# Altium schematic symbol library dungvh03-CERN_Logic.SchLib: 486 symbols (part 23 of 54)
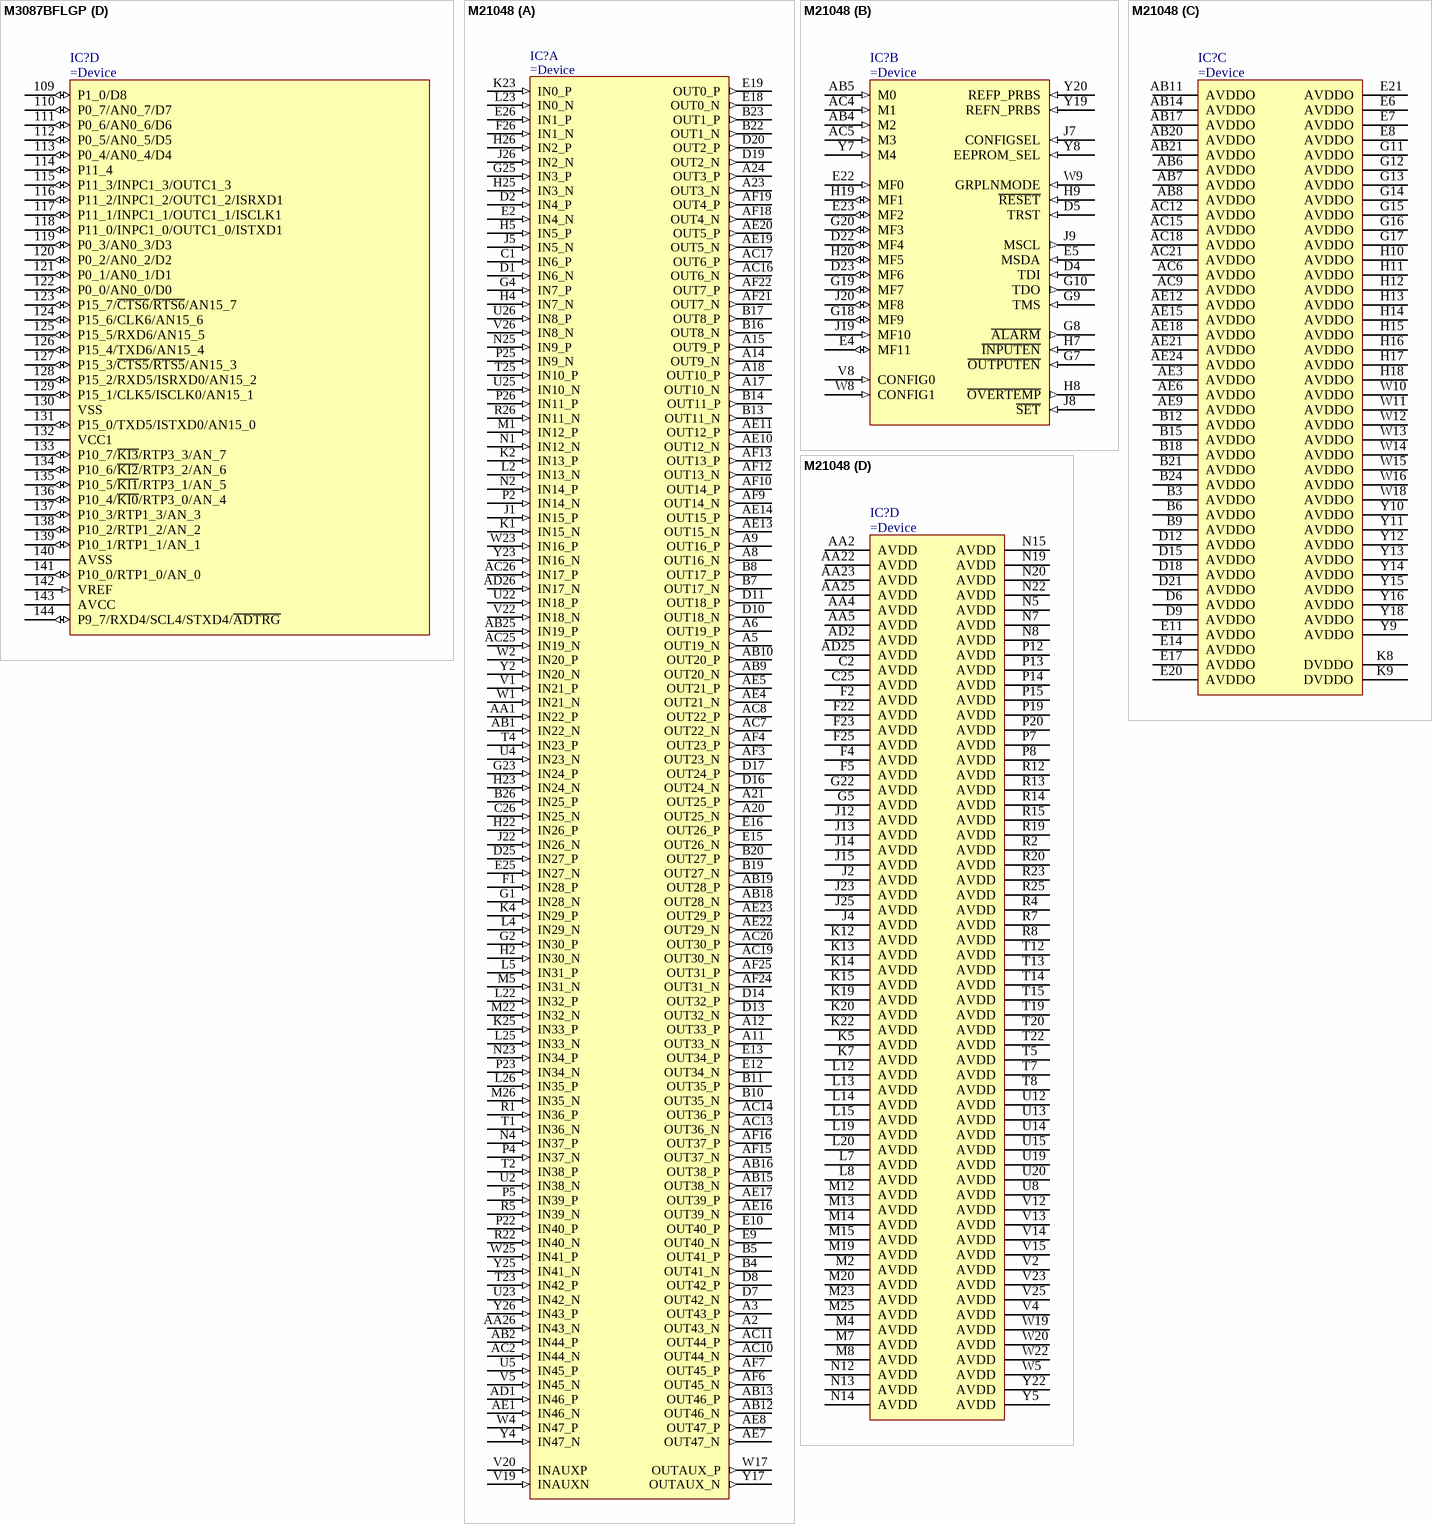
[diagram p283: symbols M3087BFLGP to M21048]

## M3087BFLGP
designator IC?
Micro Controller Unit (MCU)
part A pins: 1 P9_6/CAN1OUT/TXD4/SDA4/SRXD4/ANEX1 (io), 2 P9_5/CLK4/CAN1IN/~{CAN1WU}/ANEX0 (io), 3 P9_4/TB4IN/~{CTS4}/~{RTS4}/~{SS4}/DA1 (io), 4 P9_3/TB3IN/~{CTS3}/~{RTS3}/~{SS3}/DA0 (io), 5 P9_2/TB2IN/TXD3/SDA3/SRXD3/OUTC2_0/IEOUT/ISTXD2 (io), 6 P9_1/TB1IN/RXD3/SCL3/STXD3/IEIN/ISRXD2 (io), 7 P9_0/TB0IN/CLK3 (io), 8 P14_6/~{INT8} (io), 9 P14_5/~{INT7} (io), 10 P14_4/~{INT6} (io), 11 P14_3/INPC1_7/OUTC1_7 (io), 12 P14_2/INPC1_6/OUTC1_6 (io), 13 P14_1/INPC1_5/OUTC1_5 (io), 14 P14_0/INPC1_4/OUTC1_4 (io), 15 BYTE (in), 16 CNVSS (in), 17 P8_7/XCIN (io), 18 P8_6/XCOUT (io), 19 ~{RESET} (in), 20 XOUT (out), 21 VSS (power), 22 XIN (in), 23 VCC1 (power), 24 P8_5/~{NMI} (in), 25 P8_4/~{INT2} (io), 26 P8_3/~{INT1}/CAN0IN/CAN1IN (io), 27 P8_2/~{INT0}/CAN0OUT/CAN1OUT (io), 28 P8_1/TA4IN/U/RTP2_3/~{CTS5}/~{RTS5}/INPC1_5/OUTC1_5 (io), 29 P8_0/TA4OUT/U/RXD5/ISRXD0 (io), 30 P7_7/TA3IN/RTP22/CLK5/CAN0IN/INPC14/OUTC14/ISCLK0 (io), 31 P7_6/TA3OUT/CAN0OUT/TXD5/INPC1_3/OUTC1_3/ISTXD0 (io), 32 P7_5/TA2IN/~{W}/RTP2_1/INPC1_2/OUTC1_2/ISRXD0 (io), 33 P7_4/TA2OUT/W/RTP2_0/INPC1_1/OUTC1_1/ISCLK1 (io), 34 P7_3/TA1IN/~{V}/~{CTS2}/~{RTS2}/~{SS2}/INPC1_0/OUTC1_0/ISTXD1 (io), 35 P7_2/TA1OUT/V/CLK2 (io), 36 P7_1 (io)
part B pins: 37 P7_0 (io), 38 P6_7/TXD1/SDA1/SRXD1 (io), 39 VCC1 (power), 40 P6_6/RXD1/SCL1/STXD1 (io), 41 VSS (power), 42 P6_5/CLK1 (io), 43 P6_4 (io), 44 P6_3/TXD0/SDA0/SRXD0/IrDAOUT (io), 45 P6_2/RXD0/SCL0/STXD0/IrDAIN (io), 46 P6_1/RTP0_1/CLK0 (io), 47 P6_0/RTP0_0/~{CTS0}/~{RTS0}/~{SS0} (io), 48 P13_7/OUTC2_7 (io), 49 P13_6/OUTC2_1/ISCLK2 (io), 50 P13_5/OUTC2_2/ISRXD2/IEIN (io), 51 P13_4/OUTC2_0/ISTXD2/IEOUT (io), 52 P5_7/~{RDY} (io), 53 P5_6/ALE (io), 54 P5_5/~{HOLD} (io), 55 P5_4/~{HLDA}/ALE (io), 56 P13_3/OUTC2_3 (io), 57 VSS (power), 58 P13_2/OUTC2_6 (io), 59 VCC2 (power), 60 P13_1/OUTC2_5 (io), 61 P13_0/OUTC2_4 (io), 62 P5_3/CLKOUT/BCLK/ALE (io), 63 P5_2/~{RD} (io), 64 P5_1/~{WRH}/~{BHE} (io), 65 P5_0/~{WRL}/~{WR} (io), 66 P12_7 (io), 67 P12_6 (io), 68 P12_5 (io), 69 P4_7/~{CS0}/~{A23} (io), 70 P4_6/~{CS1}/A22 (io), 71 P4_5/~{CS2}/A21 (io), 72 P4_4/~{CS3}/A20 (io)
part C pins: 73 P4_3/A19 (io), 74 VCC2 (power), 75 P4_2/A18 (io), 76 VSS (power), 77 P4_1/A17 (io), 78 P4_0/A16 (io), 79 P3_7/A15,[A15/D15] (io), 80 P3_6/A14,[A14/D14] (io), 81 P3_5/A13,[A13/D13] (io), 82 P3_4/A12,[A12/D12] (io), 83 P3_3/A11,[A11/D11] (io), 84 P3_2/A10,[A10/D10] (io), 85 P3_1/A9,[A9/D9] (io), 86 P12_4 (io), 87 P12_/~{CTS6}/~{RTS6} (io), 88 P12_2/RXD6 (io), 89 P12_1/CLK6 (io), 90 P12_0/TXD6 (io), 91 VCC2 (power), 92 P3_0/A8,[A8/D8] (io), 93 VSS (power), 94 P2_7/AN2_7/A7,[A7/D7] (io), 95 P2_6/AN2_6/A6,[A6/D6] (io), 96 P2_5/AN2_5/A5,[A5/D5] (io), 97 P2_4/AN2_4/A4,[A4/D4] (io), 98 P2_3/AN2_3/A3,[A3/D3] (io), 99 P2_2/AN2_2/A2,[A2/D2] (io), 100 P2_1/AN2_1/A1,[A1/D1] (io), 101 P2_0/AN2_0/A0,[A0/D0] (io), 102 P1_7/~{INT5}/D15 (io), 103 P1_6/~{INT4}/D14 (io), 104 P1_5/~{INT3}/D13 (io), 105 P1_4/D12 (io), 106 P1_3/D11 (io), 107 P1_2/D10 (io), 108 P1_1/D9 (io)
part D pins: 109 P1_0/D8 (io), 110 P0_7/AN0_7/D7 (io), 111 P0_6/AN0_6/D6 (io), 112 P0_5/AN0_5/D5 (io), 113 P0_4/AN0_4/D4 (io), 114 P11_4 (io), 115 P11_3/INPC1_3/OUTC1_3 (io), 116 P11_2/INPC1_2/OUTC1_2/ISRXD1 (io), 117 P11_1/INPC1_1/OUTC1_1/ISCLK1 (io), 118 P11_0/INPC1_0/OUTC1_0/ISTXD1 (io), 119 P0_3/AN0_3/D3 (io), 120 P0_2/AN0_2/D2 (io), 121 P0_1/AN0_1/D1 (io), 122 P0_0/AN0_0/D0 (io), 123 P15_7/~{CTS6}/~{RTS6}/AN15_7 (io), 124 P15_6/CLK6/AN15_6 (io), 125 P15_5/RXD6/AN15_5 (io), 126 P15_4/TXD6/AN15_4 (io), 127 P15_3/~{CTS5}/~{RTS5}/AN15_3 (io), 128 P15_2/RXD5/ISRXD0/AN15_2 (io), 129 P15_1/CLK5/ISCLK0/AN15_1 (io), 130 VSS (power), 131 P15_0/TXD5/ISTXD0/AN15_0 (io), 132 VCC1 (power), 133 P10_7/~{KI3}/RTP3_3/AN_7 (io), 134 P10_6/~{KI2}/RTP3_2/AN_6 (io), 135 P10_5/~{KI1}/RTP3_1/AN_5 (io), 136 P10_4/~{KI0}/RTP3_0/AN_4 (io), 137 P10_3/RTP1_3/AN_3 (io), 138 P10_2/RTP1_2/AN_2 (io), 139 P10_1/RTP1_1/AN_1 (io), 140 AVSS (power), 141 P10_0/RTP1_0/AN_0 (io), 142 VREF (in), 143 AVCC (power), 144 P9_7/RXD4/SCL4/STXD4/~{ADTRG} (io)

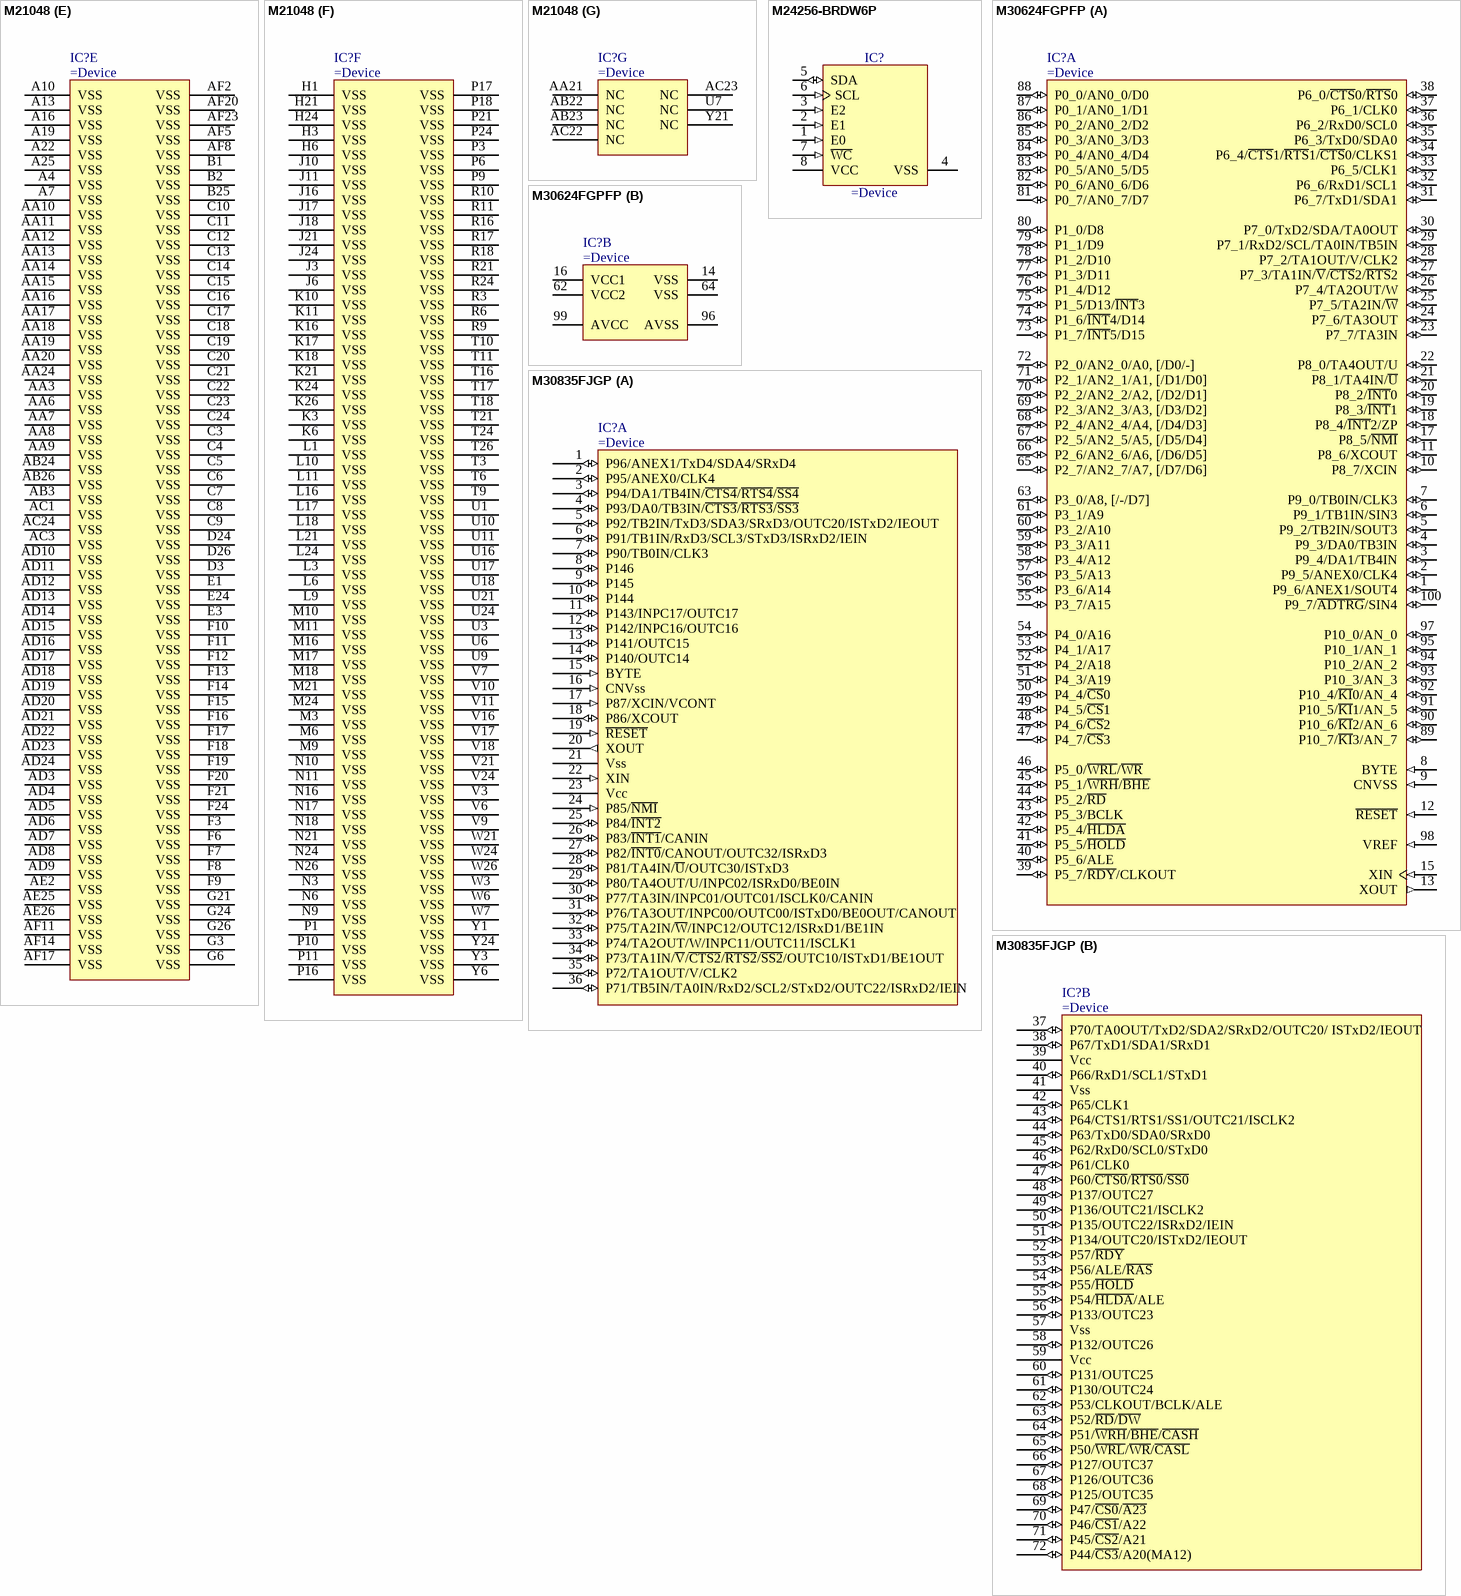
[diagram p98: symbols M21048 to M30835FJGP]

## M21048
designator IC?
12.5 Gbps Crosspoint Switch Family
part A pins: A2 OUT43_N (out), A3 OUT43_P (out), A5 OUT19_N (out), A6 OUT19_P (out), A8 OUT16_N (out), A9 OUT16_P (out), A11 OUT33_N (out), A12 OUT33_P (out), A14 OUT9_N (out), A15 OUT9_P (out), A17 OUT10_N (out), A18 OUT10_P (out), A20 OUT25_N (out), A21 OUT25_P (out), A23 OUT3_N (out), A24 OUT3_P (out), AA1 IN22_P (in), AA26 IN43_N (in), AB1 IN22_N (in), AB2 IN44_P (in), AB9 OUT20_N (out), AB10 OUT20_P (out), AB12 OUT46_N (out), AB13 OUT46_P (out), AB15 OUT38_N (out), AB16 OUT38_P (out), AB18 OUT28_N (out), AB19 OUT28_P (out), AB25 IN19_P (in), AC2 IN44_N (in), AC7 OUT22_N (out), AC8 OUT22_P (out), AC10 OUT44_N (out), AC11 OUT44_P (out), AC13 OUT36_N (out), AC14 OUT36_P (out), AC16 OUT6_N (out), AC17 OUT6_P (out), AC19 OUT30_N (out), AC20 OUT30_P (out), AC25 IN19_N (in), AC26 IN17_P (in), AD1 IN46_P (in), AD26 IN17_N (in), AE1 IN46_N (in), AE4 OUT21_N (out), AE5 OUT21_P (out), AE7 OUT47_N (out), AE8 OUT47_P (out), AE10 OUT12_N (out), AE11 OUT12_P (out), AE13 OUT15_N (out), AE14 OUT15_P (out), AE16 OUT39_N (out), AE17 OUT39_P (out), AE19 OUT5_N (out), AE20 OUT5_P (out), AE22 OUT29_N (out), AE23 OUT29_P (out), AF3 OUT23_N (out), AF4 OUT23_P (out), AF6 OUT45_N (out), AF7 OUT45_P (out), AF9 OUT14_N (out), AF10 OUT14_P (out), AF12 OUT13_N (out), AF13 OUT13_P (out), AF15 OUT37_N (out), AF16 OUT37_P (out), AF18 OUT4_N (out), AF19 OUT4_P (out), AF21 OUT7_N (out), AF22 OUT7_P (out), AF24 OUT31_N (out), AF25 OUT31_P (out), B4 OUT41_N (out), B5 OUT41_P (out), B7 OUT17_N (out), B8 OUT17_P (out), B10 OUT35_N (out), B11 OUT35_P (out), B13 OUT11_N (out), B14 OUT11_P (out), B16 OUT8_N (out), B17 OUT8_P (out), B19 OUT27_N (out), B20 OUT27_P (out), B22 OUT1_N (out), B23 OUT1_P (out), B26 IN25_P (in), C1 IN6_P (in), C26 IN25_N (in), D1 IN6_N (in), D2 IN4_P (in), D7 OUT42_N (out), D8 OUT42_P (out), D10 OUT18_N (out), D11 OUT18_P (out), D13 OUT32_N (out), D14 OUT32_P (out), D16 OUT24_N (out), D17 OUT24_P (out), D19 OUT2_N (out), D20 OUT2_P (out), D25 IN27_P (in), E2 IN4_N (in), E9 OUT40_N (out), E10 OUT40_P (out), E12 OUT34_N (out), E13 OUT34_P (out), E15 OUT26_N (out), E16 OUT26_P (out), E18 OUT0_N (out), E19 OUT0_P (out), E25 IN27_N (in), E26 IN1_P (in), F1 IN28_P (in), F26 IN1_N (in), G1 IN28_N (in), G2 IN30_P (in), G4 IN7_P (in), G23 IN24_P (in), G25 IN3_P (in), H2 IN30_N (in), H4 IN7_N (in), H5 IN5_P (in), H22 IN26_P (in), H23 IN24_N (in), H25 IN3_N (in), H26 IN2_P (in), J1 IN15_P (in), J5 IN5_N (in), J22 IN26_N (in), J26 IN2_N (in), K1 IN15_N (in), K2 IN13_P (in), K4 IN29_P (in), K23 IN0_P (in), K25 IN33_P (in), L2 IN13_N (in), L4 IN29_N (in), L5 IN31_P (in), L22 IN32_P (in), L23 IN0_N (in), L25 IN33_N (in), L26 IN35_P (in), M1 IN12_P (in), M5 IN31_N (in), M22 IN32_N (in), M26 IN35_N (in), N1 IN12_N (in), N2 IN14_P (in), N4 IN37_P (in), N23 IN34_P (in), N25 IN9_P (in), P2 IN14_N (in), P4 IN37_N (in), P5 IN39_P (in), P22 IN40_P (in), P23 IN34_N (in), P25 IN9_N (in), P26 IN11_P (in), R1 IN36_P (in), R5 IN39_N (in), R22 IN40_N (in), R26 IN11_N (in), T1 IN36_N (in), T2 IN38_P (in), T4 IN23_P (in), T23 IN42_P (in), T25 IN10_P (in), U2 IN38_N (in), U4 IN23_N (in), U5 IN45_P (in), U22 IN18_P (in), U23 IN42_N (in), U25 IN10_N (in), U26 IN8_P (in), V1 IN21_P (in), V5 IN45_N (in), V19 INAUXN (in), V20 INAUXP (in), V22 IN18_N (in), V26 IN8_N (in), W1 IN21_N (in), W2 IN20_P (in), W4 IN47_P (in), W17 OUTAUX_P (out), W23 IN16_P (in), W25 IN41_P (in), Y2 IN20_N (in), Y4 IN47_N (in), Y17 OUTAUX_N (out), Y23 IN16_N (in), Y25 IN41_N (in), Y26 IN43_P (in)
part B pins: AB4 M2 (in), AB5 M0 (in), AC4 M1 (in), AC5 M3 (in), D4 TDI (in), D5 TRST (in), D22 MF4 (io), D23 MF6 (io), E4 MF11 (io), E5 MSDA (in), E22 MF0 (in), E23 MF2 (io), G7 ~{OUTPUTEN} (in), G8 ~{ALARM} (out), G9 TMS (in), G10 TDO (out), G18 MF9 (io), G19 MF7 (io), G20 MF3 (io), H7 ~{INPUTEN} (in), H8 ~{OVERTEMP} (out), H9 ~{RESET} (in), H19 MF1 (io), H20 MF5 (io), J7 CONFIGSEL (in), J8 ~{SET} (in), J9 MSCL (out), J19 MF10 (in), J20 MF8 (io), V8 CONFIG0 (in), W8 CONFIG1 (in), W9 GRPLNMODE (in), Y7 M4 (in), Y8 EEPROM_SEL (in), Y19 REFN_PRBS (in), Y20 REFP_PRBS (in)
part C pins:  AB6 AVDDO (power),  AB7 AVDDO (power),  AB8 AVDDO (power),  AB11 AVDDO (power),  AB14 AVDDO (power),  AB17 AVDDO (power),  AB20 AVDDO (power),  AB21 AVDDO (power),  AC6 AVDDO (power),  AC9 AVDDO (power),  AC12 AVDDO (power),  AC15 AVDDO (power),  AC18 AVDDO (power),  AC21 AVDDO (power),  AE3 AVDDO (power),  AE6 AVDDO (power),  AE9 AVDDO (power),  AE12 AVDDO (power),  AE15 AVDDO (power),  AE18 AVDDO (power),  AE21 AVDDO (power),  AE24 AVDDO (power),  B3 AVDDO (power),  B6 AVDDO (power),  B9 AVDDO (power),  B12 AVDDO (power),  B15 AVDDO (power),  B18 AVDDO (power),  B21 AVDDO (power),  B24 AVDDO (power),  D6 AVDDO (power),  D9 AVDDO (power),  D12 AVDDO (power),  D15 AVDDO (power),  D18 AVDDO (power),  D21 AVDDO (power),  E6 AVDDO (power),  E7 AVDDO (power),  E8 AVDDO (power),  E11 AVDDO (power),  E14 AVDDO (power),  E17 AVDDO (power),  E20 AVDDO (power),  E21 AVDDO (power),  G11 AVDDO (power),  G12 AVDDO (power),  G13 AVDDO (power),  G14 AVDDO (power),  G15 AVDDO (power),  G16 AVDDO (power),  G17 AVDDO (power),  H10 AVDDO (power),  H11 AVDDO (power),  H12 AVDDO (power),  H13 AVDDO (power),  H14 AVDDO (power),  H15 AVDDO (power),  H16 AVDDO (power),  H17 AVDDO (power),  H18 AVDDO (power),  W10 AVDDO (power),  W11 AVDDO (power),  W12 AVDDO (power),  W13 AVDDO (power),  W14 AVDDO (power),  W15 AVDDO (power),  W16 AVDDO (power),  W18 AVDDO (power),  Y9 AVDDO (power),  Y10 AVDDO (power),  Y11 AVDDO (power),  Y12 AVDDO (power),  Y13 AVDDO (power),  Y14 AVDDO (power),  Y15 AVDDO (power),  Y16 AVDDO (power),  Y18 AVDDO (power), K8 DVDDO (power), K9 DVDDO (power)
part D pins:  AA2 AVDD (power),  AA4 AVDD (power),  AA5 AVDD (power),  AA22 AVDD (power),  AA23 AVDD (power),  AA25 AVDD (power),  AD2 AVDD (power),  AD25 AVDD (power),  C2 AVDD (power),  C25 AVDD (power),  F2 AVDD (power),  F4 AVDD (power),  F5 AVDD (power),  F22 AVDD (power),  F23 AVDD (power),  F25 AVDD (power),  G5 AVDD (power),  G22 AVDD (power),  J2 AVDD (power),  J4 AVDD (power),  J12 AVDD (power),  J13 AVDD (power),  J14 AVDD (power),  J15 AVDD (power),  J23 AVDD (power),  J25 AVDD (power),  K5 AVDD (power),  K7 AVDD (power),  K12 AVDD (power),  K13 AVDD (power),  K14 AVDD (power),  K15 AVDD (power),  K19 AVDD (power),  K20 AVDD (power),  K22 AVDD (power),  L7 AVDD (power),  L8 AVDD (power),  L12 AVDD (power),  L13 AVDD (power),  L14 AVDD (power),  L15 AVDD (power),  L19 AVDD (power),  L20 AVDD (power),  M2 AVDD (power),  M4 AVDD (power),  M7 AVDD (power),  M8 AVDD (power),  M12 AVDD (power),  M13 AVDD (power),  M14 AVDD (power),  M15 AVDD (power),  M19 AVDD (power),  M20 AVDD (power),  M23 AVDD (power),  M25 AVDD (power),  N5 AVDD (power),  N7 AVDD (power),  N8 AVDD (power),  N12 AVDD (power),  N13 AVDD (power),  N14 AVDD (power),  N15 AVDD (power),  N19 AVDD (power),  N20 AVDD (power),  N22 AVDD (power),  P7 AVDD (power),  P8 AVDD (power),  P12 AVDD (power),  P13 AVDD (power),  P14 AVDD (power),  P15 AVDD (power),  P19 AVDD (power),  P20 AVDD (power),  R2 AVDD (power),  R4 AVDD (power),  R7 AVDD (power),  R8 AVDD (power),  R12 AVDD (power),  R13 AVDD (power),  R14 AVDD (power),  R15 AVDD (power),  R19 AVDD (power),  R20 AVDD (power),  R23 AVDD (power),  R25 AVDD (power),  T5 AVDD (power),  T7 AVDD (power),  T8 AVDD (power),  T12 AVDD (power),  T13 AVDD (power),  T14 AVDD (power),  T15 AVDD (power),  T19 AVDD (power),  T20 AVDD (power),  T22 AVDD (power),  U8 AVDD (power),  U12 AVDD (power),  U13 AVDD (power),  U14 AVDD (power),  U15 AVDD (power),  U19 AVDD (power),  U20 AVDD (power),  V2 AVDD (power),  V4 AVDD (power),  V12 AVDD (power),  V13 AVDD (power),  V14 AVDD (power),  V15 AVDD (power),  V23 AVDD (power),  V25 AVDD (power),  W5 AVDD (power),  W19 AVDD (power),  W20 AVDD (power),  W22 AVDD (power),  Y5 AVDD (power),  Y22 AVDD (power)
part E pins:  A4 VSS (power),  A7 VSS (power),  A10 VSS (power),  A13 VSS (power),  A16 VSS (power),  A19 VSS (power),  A22 VSS (power),  A25 VSS (power),  AA3 VSS (power),  AA6 VSS (power),  AA7 VSS (power),  AA8 VSS (power),  AA9 VSS (power),  AA10 VSS (power),  AA11 VSS (power),  AA12 VSS (power),  AA13 VSS (power),  AA14 VSS (power),  AA15 VSS (power),  AA16 VSS (power),  AA17 VSS (power),  AA18 VSS (power),  AA19 VSS (power),  AA20 VSS (power),  AA24 VSS (power),  AB3 VSS (power),  AB24 VSS (power),  AB26 VSS (power),  AC1 VSS (power),  AC3 VSS (power),  AC24 VSS (power),  AD3 VSS (power),  AD4 VSS (power),  AD5 VSS (power),  AD6 VSS (power),  AD7 VSS (power),  AD8 VSS (power),  AD9 VSS (power),  AD10 VSS (power),  AD11 VSS (power),  AD12 VSS (power),  AD13 VSS (power),  AD14 VSS (power),  AD15 VSS (power),  AD16 VSS (power),  AD17 VSS (power),  AD18 VSS (power),  AD19 VSS (power),  AD20 VSS (power),  AD21 VSS (power),  AD22 VSS (power),  AD23 VSS (power),  AD24 VSS (power),  AE2 VSS (power),  AE25 VSS (power),  AE26 VSS (power),  AF2 VSS (power),  AF5 VSS (power),  AF8 VSS (power),  AF11 VSS (power),  AF14 VSS (power),  AF17 VSS (power),  AF20 VSS (power),  AF23 VSS (power),  B1 VSS (power),  B2 VSS (power),  B25 VSS (power),  C3 VSS (power),  C4 VSS (power),  C5 VSS (power),  C6 VSS (power),  C7 VSS (power),  C8 VSS (power),  C9 VSS (power),  C10 VSS (power),  C11 VSS (power),  C12 VSS (power),  C13 VSS (power),  C14 VSS (power),  C15 VSS (power),  C16 VSS (power),  C17 VSS (power),  C18 VSS (power),  C19 VSS (power),  C20 VSS (power),  C21 VSS (power),  C22 VSS (power),  C23 VSS (power),  C24 VSS (power),  D3 VSS (power),  D24 VSS (power),  D26 VSS (power),  E1 VSS (power),  E3 VSS (power),  E24 VSS (power),  F3 VSS (power),  F6 VSS (power),  F7 VSS (power),  F8 VSS (power),  F9 VSS (power),  F10 VSS (power),  F11 VSS (power),  F12 VSS (power),  F13 VSS (power),  F14 VSS (power),  F15 VSS (power),  F16 VSS (power),  F17 VSS (power),  F18 VSS (power),  F19 VSS (power),  F20 VSS (power),  F21 VSS (power),  F24 VSS (power),  G3 VSS (power),  G6 VSS (power),  G21 VSS (power),  G24 VSS (power),  G26 VSS (power)
part F pins:  H1 VSS (power),  H3 VSS (power),  H6 VSS (power),  H21 VSS (power),  H24 VSS (power),  J3 VSS (power),  J6 VSS (power),  J10 VSS (power),  J11 VSS (power),  J16 VSS (power),  J17 VSS (power),  J18 VSS (power),  J21 VSS (power),  J24 VSS (power),  K3 VSS (power),  K6 VSS (power),  K10 VSS (power),  K11 VSS (power),  K16 VSS (power),  K17 VSS (power),  K18 VSS (power),  K21 VSS (power),  K24 VSS (power),  K26 VSS (power),  L1 VSS (power),  L3 VSS (power),  L6 VSS (power),  L9 VSS (power),  L10 VSS (power),  L11 VSS (power),  L16 VSS (power),  L17 VSS (power),  L18 VSS (power),  L21 VSS (power),  L24 VSS (power),  M3 VSS (power),  M6 VSS (power),  M9 VSS (power),  M10 VSS (power),  M11 VSS (power),  M16 VSS (power),  M17 VSS (power),  M18 VSS (power),  M21 VSS (power),  M24 VSS (power),  N3 VSS (power),  N6 VSS (power),  N9 VSS (power),  N10 VSS (power),  N11 VSS (power),  N16 VSS (power),  N17 VSS (power),  N18 VSS (power),  N21 VSS (power),  N24 VSS (power),  N26 VSS (power),  P1 VSS (power),  P3 VSS (power),  P6 VSS (power),  P9 VSS (power),  P10 VSS (power),  P11 VSS (power),  P16 VSS (power),  P17 VSS (power),  P18 VSS (power),  P21 VSS (power),  P24 VSS (power),  R3 VSS (power),  R6 VSS (power),  R9 VSS (power),  R10 VSS (power),  R11 VSS (power),  R16 VSS (power),  R17 VSS (power),  R18 VSS (power),  R21 VSS (power),  R24 VSS (power),  T3 VSS (power),  T6 VSS (power),  T9 VSS (power),  T10 VSS (power),  T11 VSS (power),  T16 VSS (power),  T17 VSS (power),  T18 VSS (power),  T21 VSS (power),  T24 VSS (power),  T26 VSS (power),  U1 VSS (power),  U3 VSS (power),  U6 VSS (power),  U9 VSS (power),  U10 VSS (power),  U11 VSS (power),  U16 VSS (power),  U17 VSS (power),  U18 VSS (power),  U21 VSS (power),  U24 VSS (power),  V3 VSS (power),  V6 VSS (power),  V7 VSS (power),  V9 VSS (power),  V10 VSS (power),  V11 VSS (power),  V16 VSS (power),  V17 VSS (power),  V18 VSS (power),  V21 VSS (power),  V24 VSS (power),  W3 VSS (power),  W6 VSS (power),  W7 VSS (power),  W21 VSS (power),  W24 VSS (power),  W26 VSS (power),  Y1 VSS (power),  Y3 VSS (power),  Y6 VSS (power),  Y24 VSS (power)
part G pins:  AA21 NC,  AB22 NC,  AB23 NC,  AC22 NC,  AC23 NC,  U7 NC,  Y21 NC

## M24256-BRDW6P
designator IC?
256-Kbit Serial I²C Bus EEPROM
pins: 1 E0 (in), 2 E1 (in), 3 E2 (in), 4 VSS (power), 5 SDA (io), 6 SCL (in), 7 ~{WC} (in), 8 VCC (power)

## M30624FGPFP
designator IC?
Flash Memory M16C/60 Series, 62P Group MCU, 256K + 4K ROM, 20K RAM, 100-pin RQFP
part A pins: 1 P9_6/ANEX1/SOUT4 (io), 2 P9_5/ANEX0/CLK4 (io), 3 P9_4/DA1/TB4IN (io), 4 P9_3/DA0/TB3IN (io), 5 P9_2/TB2IN/SOUT3 (io), 6 P9_1/TB1IN/SIN3 (io), 7 P9_0/TB0IN/CLK3 (io), 8 BYTE (in), 9 CNVSS (in), 10 P8_7/XCIN (io), 11 P8_6/XCOUT (io), 12 ~{RESET} (in), 13 XOUT (out), 15 XIN (in), 17 P8_5/~{NMI} (io), 18 P8_4/~{INT}2/ZP (io), 19 P8_3/~{INT}1 (io), 20 P8_2/~{INT}0 (io), 21 P8_1/TA4IN/~{U} (io), 22 P8_0/TA4OUT/U (io), 23 P7_7/TA3IN (io), 24 P7_6/TA3OUT (io), 25 P7_5/TA2IN/~{W} (io), 26 P7_4/TA2OUT/W (io), 27 P7_3/TA1IN/~{V}/~{CTS}2/~{RTS}2 (io), 28 P7_2/TA1OUT/V/CLK2 (io), 29 P7_1/RxD2/SCL/TA0IN/TB5IN (io), 30 P7_0/TxD2/SDA/TA0OUT (io), 31 P6_7/TxD1/SDA1 (io), 32 P6_6/RxD1/SCL1 (io), 33 P6_5/CLK1 (io), 34 P6_4/~{CTS}1/~{RTS}1/~{CTS}0/CLKS1 (io), 35 P6_3/TxD0/SDA0 (io), 36 P6_2/RxD0/SCL0 (io), 37 P6_1/CLK0 (io), 38 P6_0/~{CTS}0/~{RTS}0 (io), 39 P5_7/~{RDY}/CLKOUT (io), 40 P5_6/ALE (io), 41 P5_5/~{HOLD} (io), 42 P5_4/~{HLDA} (io), 43 P5_3/BCLK (io), 44 P5_2/~{RD} (io), 45 P5_1/~{WRH}/~{BHE} (io), 46 P5_0/~{WRL}/~{WR} (io), 47 P4_7/~{CS}3 (io), 48 P4_6/~{CS}2 (io), 49 P4_5/~{CS}1 (io), 50 P4_4/~{CS}0 (io), 51 P4_3/A19 (io), 52 P4_2/A18 (io), 53 P4_1/A17 (io), 54 P4_0/A16 (io), 55 P3_7/A15 (io), 56 P3_6/A14 (io), 57 P3_5/A13 (io), 58 P3_4/A12 (io), 59 P3_3/A11 (io), 60 P3_2/A10 (io), 61 P3_1/A9 (io), 63 P3_0/A8, [/-/D7] (io), 65 P2_7/AN2_7/A7, [/D7/D6] (io), 66 P2_6/AN2_6/A6, [/D6/D5] (io), 67 P2_5/AN2_5/A5, [/D5/D4] (io), 68 P2_4/AN2_4/A4, [/D4/D3] (io), 69 P2_3/AN2_3/A3, [/D3/D2] (io), 70 P2_2/AN2_2/A2, [/D2/D1] (io), 71 P2_1/AN2_1/A1, [/D1/D0] (io), 72 P2_0/AN2_0/A0, [/D0/-] (io), 73 P1_7/~{INT}5/D15 (io), 74 P1_6/~{INT}4/D14 (io), 75 P1_5/D13/~{INT}3 (io), 76 P1_4/D12 (io), 77 P1_3/D11 (io), 78 P1_2/D10 (io), 79 P1_1/D9 (io), 80 P1_0/D8 (io), 81 P0_7/AN0_7/D7 (io), 82 P0_6/AN0_6/D6 (io), 83 P0_5/AN0_5/D5 (io), 84 P0_4/AN0_4/D4 (io), 85 P0_3/AN0_3/D3 (io), 86 P0_2/AN0_2/D2 (io), 87 P0_1/AN0_1/D1 (io), 88 P0_0/AN0_0/D0 (io), 89 P10_7/~{KI}3/AN_7 (io), 90 P10_6/~{KI}2/AN_6 (io), 91 P10_5/~{KI}1/AN_5 (io), 92 P10_4/~{KI}0/AN_4 (io), 93 P10_3/AN_3 (io), 94 P10_2/AN_2 (io), 95 P10_1/AN_1 (io), 97 P10_0/AN_0 (io), 98 VREF (in), 100 P9_7/~{ADTRG}/SIN4 (io)
part B pins: 14 VSS (power), 16 VCC1 (power), 62 VCC2 (power), 64 VSS (power), 96 AVSS (power), 99 AVCC (power)

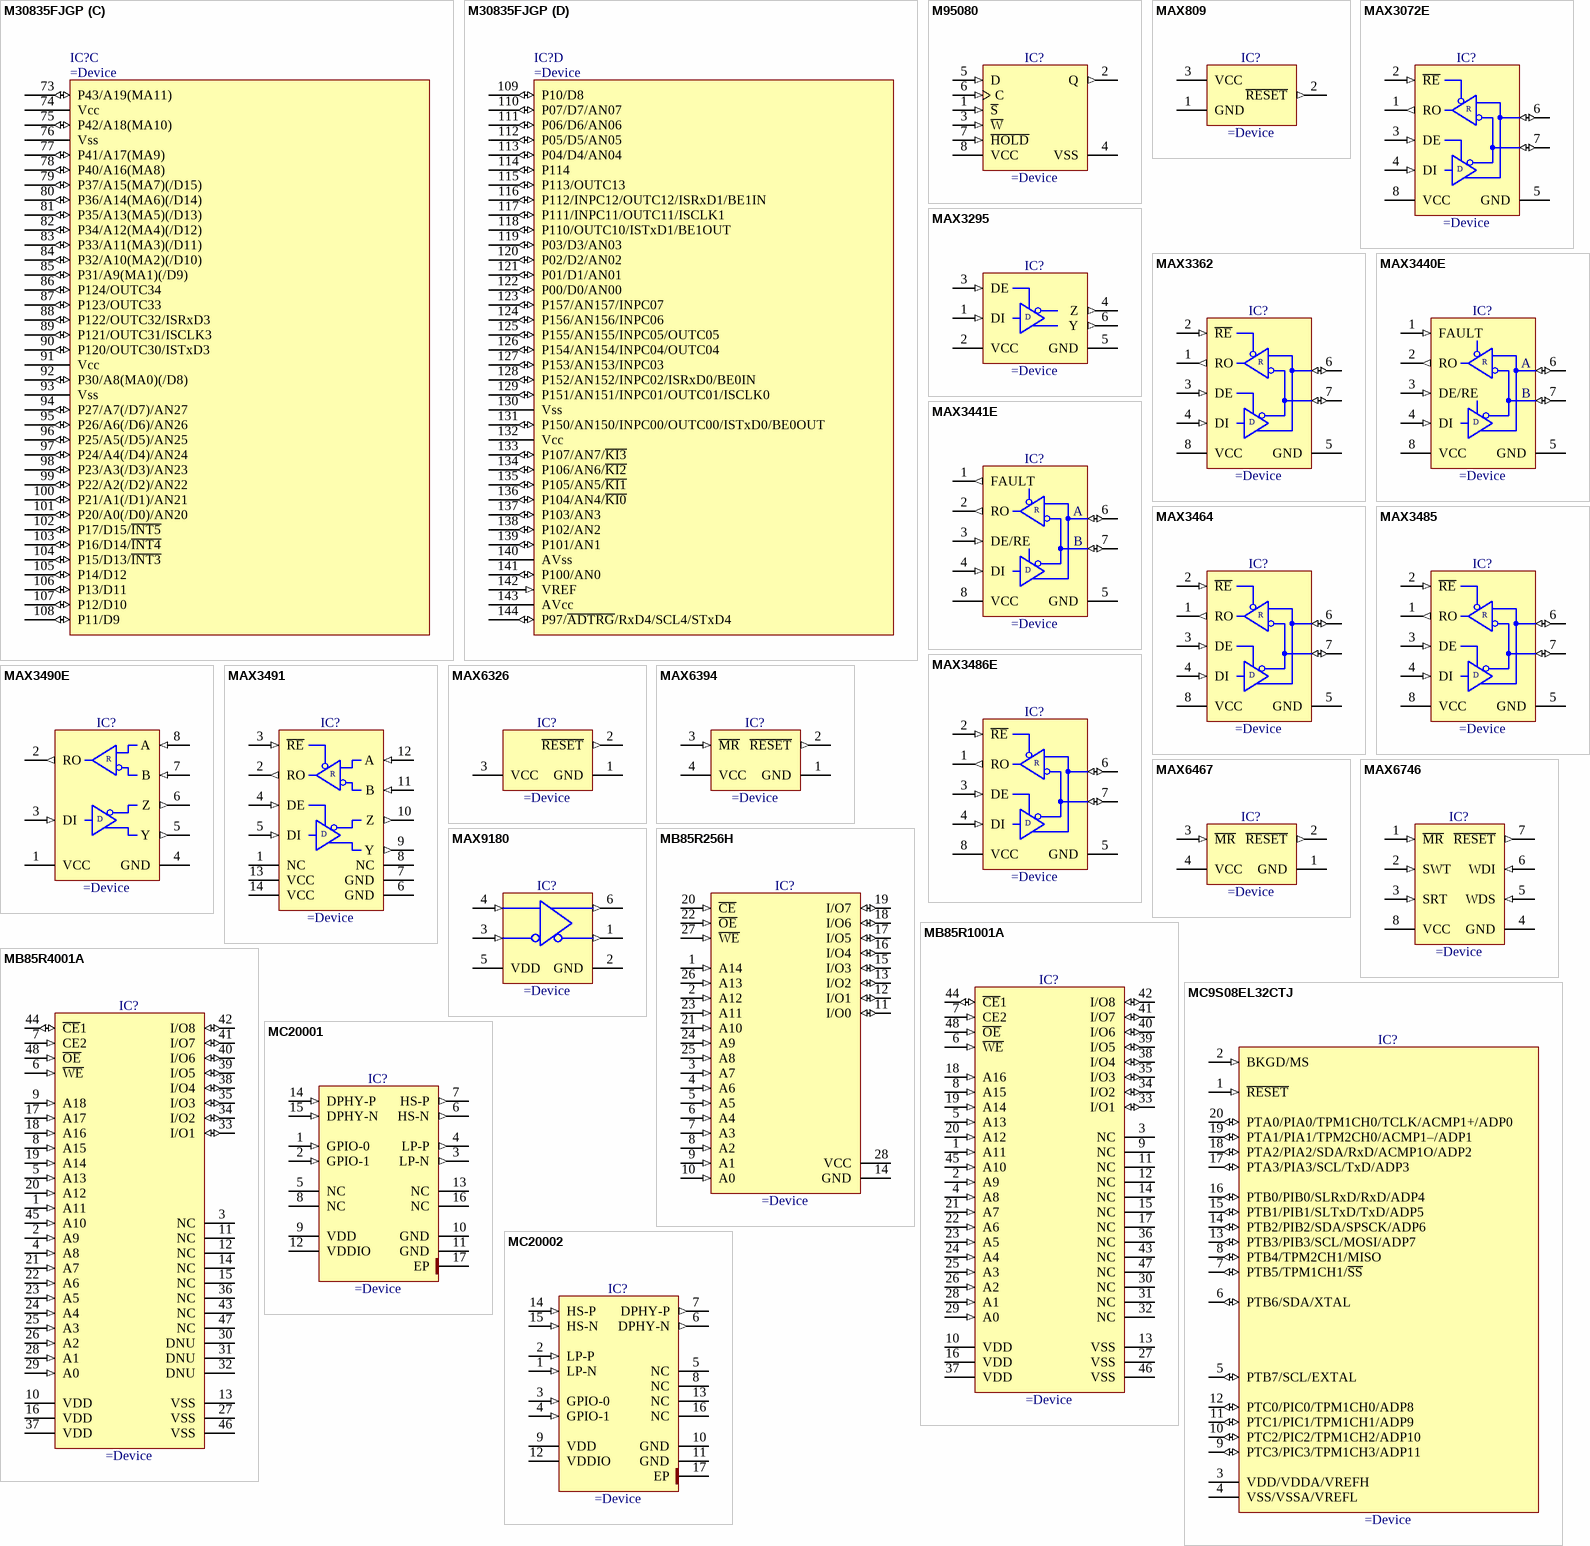
[diagram p99: symbols M30835FJGP to MC20002]

## M30835FJGP
designator IC?
Single-Chip 16/32-BIT CMOS Microcomputer
part A pins: 1 P96/ANEX1/TxD4/SDA4/SRxD4 (io), 2 P95/ANEX0/CLK4 (io), 3 P94/DA1/TB4IN/~{CTS4}/~{RTS4}/~{SS4} (io), 4 P93/DA0/TB3IN/~{CTS3}/~{RTS3}/~{SS3} (io), 5 P92/TB2IN/TxD3/SDA3/SRxD3/OUTC20/ISTxD2/IEOUT (io), 6 P91/TB1IN/RxD3/SCL3/STxD3/ISRxD2/IEIN (io), 7 P90/TB0IN/CLK3 (io), 8 P146 (io), 9 P145 (io), 10 P144 (io), 11 P143/INPC17/OUTC17 (io), 12 P142/INPC16/OUTC16 (io), 13 P141/OUTC15 (io), 14 P140/OUTC14 (io), 15 BYTE (in), 16 CNVss (in), 17 P87/XCIN/VCONT (in), 18 P86/XCOUT (io), 19 ~{RESET} (in), 20 XOUT (out), 21 Vss (power), 22 XIN (in), 23 Vcc (power), 24 P85/~{NMI} (in), 25 P84/~{INT2} (io), 26 P83/~{INT1}/CANIN (io), 27 P82/~{INT0}/CANOUT/OUTC32/ISRxD3 (io), 28 P81/TA4IN/~{U}/OUTC30/ISTxD3 (io), 29 P80/TA4OUT/U/INPC02/ISRxD0/BE0IN (io), 30 P77/TA3IN/INPC01/OUTC01/ISCLK0/CANIN (io), 31 P76/TA3OUT/INPC00/OUTC00/ISTxD0/BE0OUT/CANOUT (io), 32 P75/TA2IN/~{W}/INPC12/OUTC12/ISRxD1/BE1IN (io), 33 P74/TA2OUT/W/INPC11/OUTC11/ISCLK1 (io), 34 P73/TA1IN/~{V}/~{CTS2}/~{RTS2}/~{SS2}/OUTC10/ISTxD1/BE1OUT (io), 35 P72/TA1OUT/V/CLK2 (io), 36 P71/TB5IN/TA0IN/RxD2/SCL2/STxD2/OUTC22/ISRxD2/IEIN (io)
part B pins: 37 P70/TA0OUT/TxD2/SDA2/SRxD2/OUTC20/ ISTxD2/IEOUT (io), 38 P67/TxD1/SDA1/SRxD1 (io), 39 Vcc (power), 40 P66/RxD1/SCL1/STxD1 (io), 41 Vss (power), 42 P65/CLK1 (io), 43 P64/CTS1/RTS1/SS1/OUTC21/ISCLK2 (io), 44 P63/TxD0/SDA0/SRxD0 (io), 45 P62/RxD0/SCL0/STxD0 (io), 46 P61/CLK0 (io), 47 P60/~{CTS0}/~{RTS0}/~{SS0} (io), 48 P137/OUTC27 (io), 49 P136/OUTC21/ISCLK2 (io), 50 P135/OUTC22/ISRxD2/IEIN (io), 51 P134/OUTC20/ISTxD2/IEOUT (io), 52 P57/~{RDY} (io), 53 P56/ALE/~{RAS} (io), 54 P55/~{HOLD} (io), 55 P54/~{HLDA}/ALE (io), 56 P133/OUTC23 (io), 57 Vss (power), 58 P132/OUTC26 (io), 59 Vcc (power), 60 P131/OUTC25 (io), 61 P130/OUTC24 (io), 62 P53/CLKOUT/BCLK/ALE (io), 63 P52/~{RD}/~{DW} (io), 64 P51/~{WRH}/~{BHE}/~{CASH} (io), 65 P50/~{WRL}/~{WR}/~{CASL} (io), 66 P127/OUTC37 (io), 67 P126/OUTC36 (io), 68 P125/OUTC35 (io), 69 P47/~{CS0}/~{A23} (io), 70 P46/~{CS1}/A22 (io), 71 P45/~{CS2}/A21 (io), 72 P44/~{CS3}/A20(MA12) (io)
part C pins: 73 P43/A19(MA11) (io), 74 Vcc (power), 75 P42/A18(MA10) (io), 76 Vss (power), 77 P41/A17(MA9) (io), 78 P40/A16(MA8) (io), 79 P37/A15(MA7)(/D15) (io), 80 P36/A14(MA6)(/D14) (io), 81 P35/A13(MA5)(/D13) (io), 82 P34/A12(MA4)(/D12) (io), 83 P33/A11(MA3)(/D11) (io), 84 P32/A10(MA2)(/D10) (io), 85 P31/A9(MA1)(/D9) (io), 86 P124/OUTC34 (io), 87 P123/OUTC33 (io), 88 P122/OUTC32/ISRxD3 (io), 89 P121/OUTC31/ISCLK3 (io), 90 P120/OUTC30/ISTxD3 (io), 91 Vcc (power), 92 P30/A8(MA0)(/D8) (io), 93 Vss (power), 94 P27/A7(/D7)/AN27 (io), 95 P26/A6(/D6)/AN26 (io), 96 P25/A5(/D5)/AN25 (io), 97 P24/A4(/D4)/AN24 (io), 98 P23/A3(/D3)/AN23 (io), 99 P22/A2(/D2)/AN22 (io), 100 P21/A1(/D1)/AN21 (io), 101 P20/A0(/D0)/AN20 (io), 102 P17/D15/~{INT5} (io), 103 P16/D14/~{INT4} (io), 104 P15/D13/~{INT3} (io), 105 P14/D12 (io), 106 P13/D11 (io), 107 P12/D10 (io), 108 P11/D9 (io)
part D pins: 109 P10/D8 (io), 110 P07/D7/AN07 (io), 111 P06/D6/AN06 (io), 112 P05/D5/AN05 (io), 113 P04/D4/AN04 (io), 114 P114 (io), 115 P113/OUTC13 (io), 116 P112/INPC12/OUTC12/ISRxD1/BE1IN (io), 117 P111/INPC11/OUTC11/ISCLK1 (io), 118 P110/OUTC10/ISTxD1/BE1OUT (io), 119 P03/D3/AN03 (io), 120 P02/D2/AN02 (io), 121 P01/D1/AN01 (io), 122 P00/D0/AN00 (io), 123 P157/AN157/INPC07 (io), 124 P156/AN156/INPC06 (io), 125 P155/AN155/INPC05/OUTC05 (io), 126 P154/AN154/INPC04/OUTC04 (io), 127 P153/AN153/INPC03 (io), 128 P152/AN152/INPC02/ISRxD0/BE0IN (io), 129 P151/AN151/INPC01/OUTC01/ISCLK0 (io), 130 Vss (power), 131 P150/AN150/INPC00/OUTC00/ISTxD0/BE0OUT (io), 132 Vcc (power), 133 P107/AN7/~{KI3} (io), 134 P106/AN6/~{KI2} (io), 135 P105/AN5/~{KI1} (io), 136 P104/AN4/~{KI0} (io), 137 P103/AN3 (io), 138 P102/AN2 (io), 139 P101/AN1 (io), 140 AVss (power), 141 P100/AN0 (io), 142 VREF (in), 143 AVcc (power), 144 P97/~{ADTRG}/RxD4/SCL4/STxD4 (io)

## M95080
designator IC?
2.5 to 5.5 V, 8Kb (1024x8) Serial SPI Bus EEPROM with High-Speed Clock
pins: 1 ~{S} (in), 2 Q (out), 3 ~{W} (in), 4 VSS (power), 5 D (in), 6 C (in), 7 ~{HOLD} (in), 8 VCC (power)

## MAX809
designator IC?
3-Pin Microprocessor Reset Circuit
pins: 1 GND (power), 2 ~{RESET} (out), 3 VCC (power)

## MAX3072E
designator IC?
+3.3V, ±15kV ESD-Protected, 250kbps, Fail-Safe, Hot-Swap, RS-485/RS-422 Transceiver
pins: 1 RO (out), 2 ~{RE} (in), 3 DE (in), 4 DI (in), 5 GND (power), 6 A (io), 7 B (io), 8 VCC (power)
text: R; D

## MAX3295
designator IC?
20Mbps, +3.3V, SOT23 RS-485/RS-422 Transmitter
pins: 1 DI (in), 2 VCC (power), 3 DE (in), 4 Z (out), 5 GND (power), 6 Y (out)
text: D

## MAX3362
designator IC?
3.3V, High-Speed, RS-485/RS-422 Transceiver
pins: 1 RO (out), 2 ~{RE} (in), 3 DE (in), 4 DI (in), 5 GND (power), 6 A (io), 7 B (io), 8 VCC (power)
text: R; D

## MAX3440E
designator IC?
±15kV ESD-Protected, ±60V Fault-Protected, 0.25Mbps, Fail-Safe RS-485 Transceiver
pins: 1 FAULT (in), 2 RO (out), 3 DE/RE (in), 4 DI (in), 5 GND (power), 6 A (io), 7 B (io), 8 VCC (power)
text: R; D

## MAX3441E
designator IC?
±15kV ESD-Protected, ±60V Fault-Protected, 2.5 to 10Mbps, Fail-Safe RS-485 Transceiver
pins: 1 FAULT (out), 2 RO (out), 3 DE/RE (in), 4 DI (in), 5 GND (power), 6 A (io), 7 B (io), 8 VCC (power)
text: R; D

## MAX3464
designator IC?
+5V, Fail-Safe, 20Mbps, Profibus RS-485/RS-422 Transceivers
pins: 1 RO (out), 2 ~{RE} (in), 3 DE (in), 4 DI (in), 5 GND (power), 6 A (io), 7 B (io), 8 VCC (power)
text: R; D

## MAX3485
designator IC?
3.3V-Powered, ±15kV ESD-Protected, 10Mbps,True RS-485/RS-422 Half Duplex Transceiver
pins: 1 RO (out), 2 ~{RE} (in), 3 DE (in), 4 DI (in), 5 GND (power), 6 A (io), 7 B (io), 8 VCC (power)
text: R; D

## MAX3486E
designator IC?
3.3V-Powered, ±15kV ESD-Protected, 2.5Mbps and Slew-Rate-Limited True RS-485/RS-422 Transceiver
pins: 1 RO (out), 2 ~{RE} (in), 3 DE (in), 4 DI (in), 5 GND (power), 6 A (io), 7 B (io), 8 VCC (power)
text: R; D

## MAX3490E
designator IC?
3.3V-Powered, ±15kV ESD-Protected, 12Mbps RS-485/RS-422 Transceivers
pins: 1 VCC (power), 2 RO (out), 3 DI (in), 4 GND (power), 5 Y (out), 6 Z (out), 7 B (in), 8 A (in)
text: R; D

## MAX3491
designator IC?
3.3V-Powered, 10Mbps and Slew-Rate-Limited True RS-485/RS-422 Transceiver
pins: 1 NC, 2 RO (out), 3 ~{RE} (in), 4 DE (in), 5 DI (in), 6 GND (power), 7 GND (power), 8 NC, 9 Y (out), 10 Z (out), 11 B (in), 12 A (in), 13 VCC (power), 14 VCC (power)
text: R; D

## MAX6326
designator IC?
3-Pin, Ultra-Low-Power μP Reset Circuits
pins: 1 GND (power), 2 ~{RESET} (out), 3 VCC (power)

## MAX6394
designator IC?
High-Accuracy  Microprocessor Reset Circuit
pins: 1 GND (power), 2 ~{RESET} (out), 3 ~{MR} (in), 4 VCC (power)

## MAX6467
designator IC?
Microprocessor Supervisory Reset Circuits with Edge-Triggered, One-Shot Manual Reset
pins: 1 GND (power), 2 ~{RESET} (out), 3 ~{MR} (in), 4 VCC (power)

## MAX6746
designator IC?
uP Reset Circuits with Capacitor-Adjustable Reset/Watchdog Timeout Delay
pins: 1 ~{MR} (in), 2 SWT (in), 3 SRT (in), 4 GND (power), 5 WDS (in), 6 WDI (in), 7 ~{RESET} (out), 8 VCC (power)

## MAX9180
designator IC?
400Mbps, Low-Jitter, Low-Noise LVDS Repeater
pins: 1 OUT- (out), 2 GND (power), 3 IN- (in), 4 IN+ (in), 5 VDD (power), 6 OUT+ (out)

## MB85R256H
designator IC?
3.3V 256 K (32 K × 8) Bit CMOS Memory FRAM
pins: 1 A14 (in), 2 A12 (in), 3 A7 (in), 4 A6 (in), 5 A5 (in), 6 A4 (in), 7 A3 (in), 8 A2 (in), 9 A1 (in), 10 A0 (in), 11 I/O0 (io), 12 I/O1 (io), 13 I/O2 (io), 14 GND (power), 15 I/O3 (io), 16 I/O4 (io), 17 I/O5 (io), 18 I/O6 (io), 19 I/O7 (io), 20 ~{CE} (in), 21 A10 (in), 22 ~{OE} (in), 23 A11 (in), 24 A9 (in), 25 A8 (in), 26 A13 (in), 27 ~{WE} (in), 28 VCC (power)

## MB85R1001A
designator IC?
1M Bit (128K × 8) Bit Memory FRAM
pins: 1 A11 (in), 2 A9 (in), 3 NC, 4 A8 (in), 5 A13 (in), 6 ~{WE} (in), 7 CE2 (in), 8 A15 (in), 9 NC, 10 VDD (power), 11 NC, 12 NC, 13 VSS (power), 14 NC, 15 NC, 16 VDD (power), 17 NC, 18 A16 (in), 19 A14 (in), 20 A12 (in), 21 A7 (in), 22 A6 (in), 23 A5 (in), 24 A4 (in), 25 A3 (in), 26 A2 (in), 27 VSS (power), 28 A1 (in), 29 A0 (in), 30 NC, 31 NC, 32 NC, 33 I/O1 (io), 34 I/O2 (io), 35 I/O3 (io), 36 NC, 37 VDD (power), 38 I/O4 (io), 39 I/O5 (io), 40 I/O6 (io), 41 I/O7 (io), 42 I/O8 (io), 43 NC, 44 ~{CE}1 (io), 45 A10 (in), 46 VSS (power), 47 NC, 48 ~{OE} (in)

## MB85R4001A
designator IC?
4M Bit (512 K × 8) Bit Memory FRAM
pins: 1 A11 (in), 2 A9 (in), 3 NC, 4 A8 (in), 5 A13 (in), 6 ~{WE} (in), 7 CE2 (in), 8 A15 (in), 9 A18 (in), 10 VDD (power), 11 NC, 12 NC, 13 VSS (power), 14 NC, 15 NC, 16 VDD (power), 17 A17 (in), 18 A16 (in), 19 A14 (in), 20 A12 (in), 21 A7 (in), 22 A6 (in), 23 A5 (in), 24 A4 (in), 25 A3 (in), 26 A2 (in), 27 VSS (power), 28 A1 (in), 29 A0 (in), 30 DNU, 31 DNU, 32 DNU, 33 I/O1 (io), 34 I/O2 (io), 35 I/O3 (io), 36 NC, 37 VDD (power), 38 I/O4 (io), 39 I/O5 (io), 40 I/O6 (io), 41 I/O7 (io), 42 I/O8 (io), 43 NC, 44 ~{CE}1 (io), 45 A10 (in), 46 VSS (power), 47 NC, 48 ~{OE} (in)

## MC9S08EL32CTJ
designator IC?
HCS08 Family, 8-Bit Microcontroller Units (MCU)
pins: 1 ~{RESET} (in), 2 BKGD/MS (in), 3 VDD/VDDA/VREFH (power), 4 VSS/VSSA/VREFL (power), 5 PTB7/SCL/EXTAL (io), 6 PTB6/SDA/XTAL (io), 7 PTB5/TPM1CH1/~{SS} (io), 8 PTB4/TPM2CH1/MISO (io), 9 PTC3/PIC3/TPM1CH3/ADP11 (io), 10 PTC2/PIC2/TPM1CH2/ADP10 (io), 11 PTC1/PIC1/TPM1CH1/ADP9 (io), 12 PTC0/PIC0/TPM1CH0/ADP8 (io), 13 PTB3/PIB3/SCL/MOSI/ADP7 (io), 14 PTB2/PIB2/SDA/SPSCK/ADP6 (io), 15 PTB1/PIB1/SLTxD/TxD/ADP5 (io), 16 PTB0/PIB0/SLRxD/RxD/ADP4 (io), 17 PTA3/PIA3/SCL/TxD/ADP3 (io), 18 PTA2/PIA2/SDA/RxD/ACMP1O/ADP2 (io), 19 PTA1/PIA1/TPM2CH0/ACMP1–/ADP1 (io), 20 PTA0/PIA0/TPM1CH0/TCLK/ACMP1+/ADP0 (io)

## MC20001
designator IC?
FPGA Bridge IC
pins: 1 GPIO-0 (in) "General purpose configuration input 0", 2 GPIO-1 (in) "General purpose configuration input 1", 3 LP-N (out) "Negative CMOS low power data output", 4 LP-P (out) "Positive CMOS low power data output", 5 NC "Do not connect", 6 HS-N (out) "Negative LVDS high speed output", 7 HS-P (out) "Positive LVDS high speed output", 8 NC "Do not connect", 9 VDD (power) "Supply voltage for the SLVS input driver and internal logic", 10 GND (power) "Global ground", 11 GND (power) "Global ground", 12 VDDIO (power) "Supply voltage for the LVDS output stage and internal level shifters", 13 NC "Do not connect", 14 DPHY-P (in) "MIPI D-PHY compliant positive input or SLVS positive input", 15 DPHY-N (in) "MIPI D-PHY compliant negative input or SLVS negative input", 16 NC "Do not connect", 17 EP (power) "Thermal Pad may be connected to GND or left floating (NC)"

## MC20002
designator IC?
FPGA Bridge IC
pins: 1 LP-N (in) "Negative CMOS low power data input", 2 LP-P (in) "Positive CMOS low power data input", 3 GPIO-0 (in) "General purpose configuration input 0", 4 GPIO-1 (in) "General purpose configuration input 1", 5 NC "Do not connect", 6 DPHY-N (out) "MIPI D-PHY compliant negative output or SLVS negative output", 7 DPHY-P (out) "MIPI D-PHY compliant positive output or SLVS positive output", 8 NC "Do not connect", 9 VDD (power) "Supply voltage for the SLVS Output Driver and internal logic", 10 GND (power) "Global ground", 11 GND (power) "Global ground", 12 VDDIO (power) "Supply voltage for the LVDS input stage and internal level shifters", 13 NC "Do not connect", 14 HS-P (in) "Positive LVDS high speed input", 15 HS-N (in) "Negative LVDS high speed input", 16 NC "Do not connect", 17 EP (power) "Thermal Pad may be connected to GND or left floating (NC)"

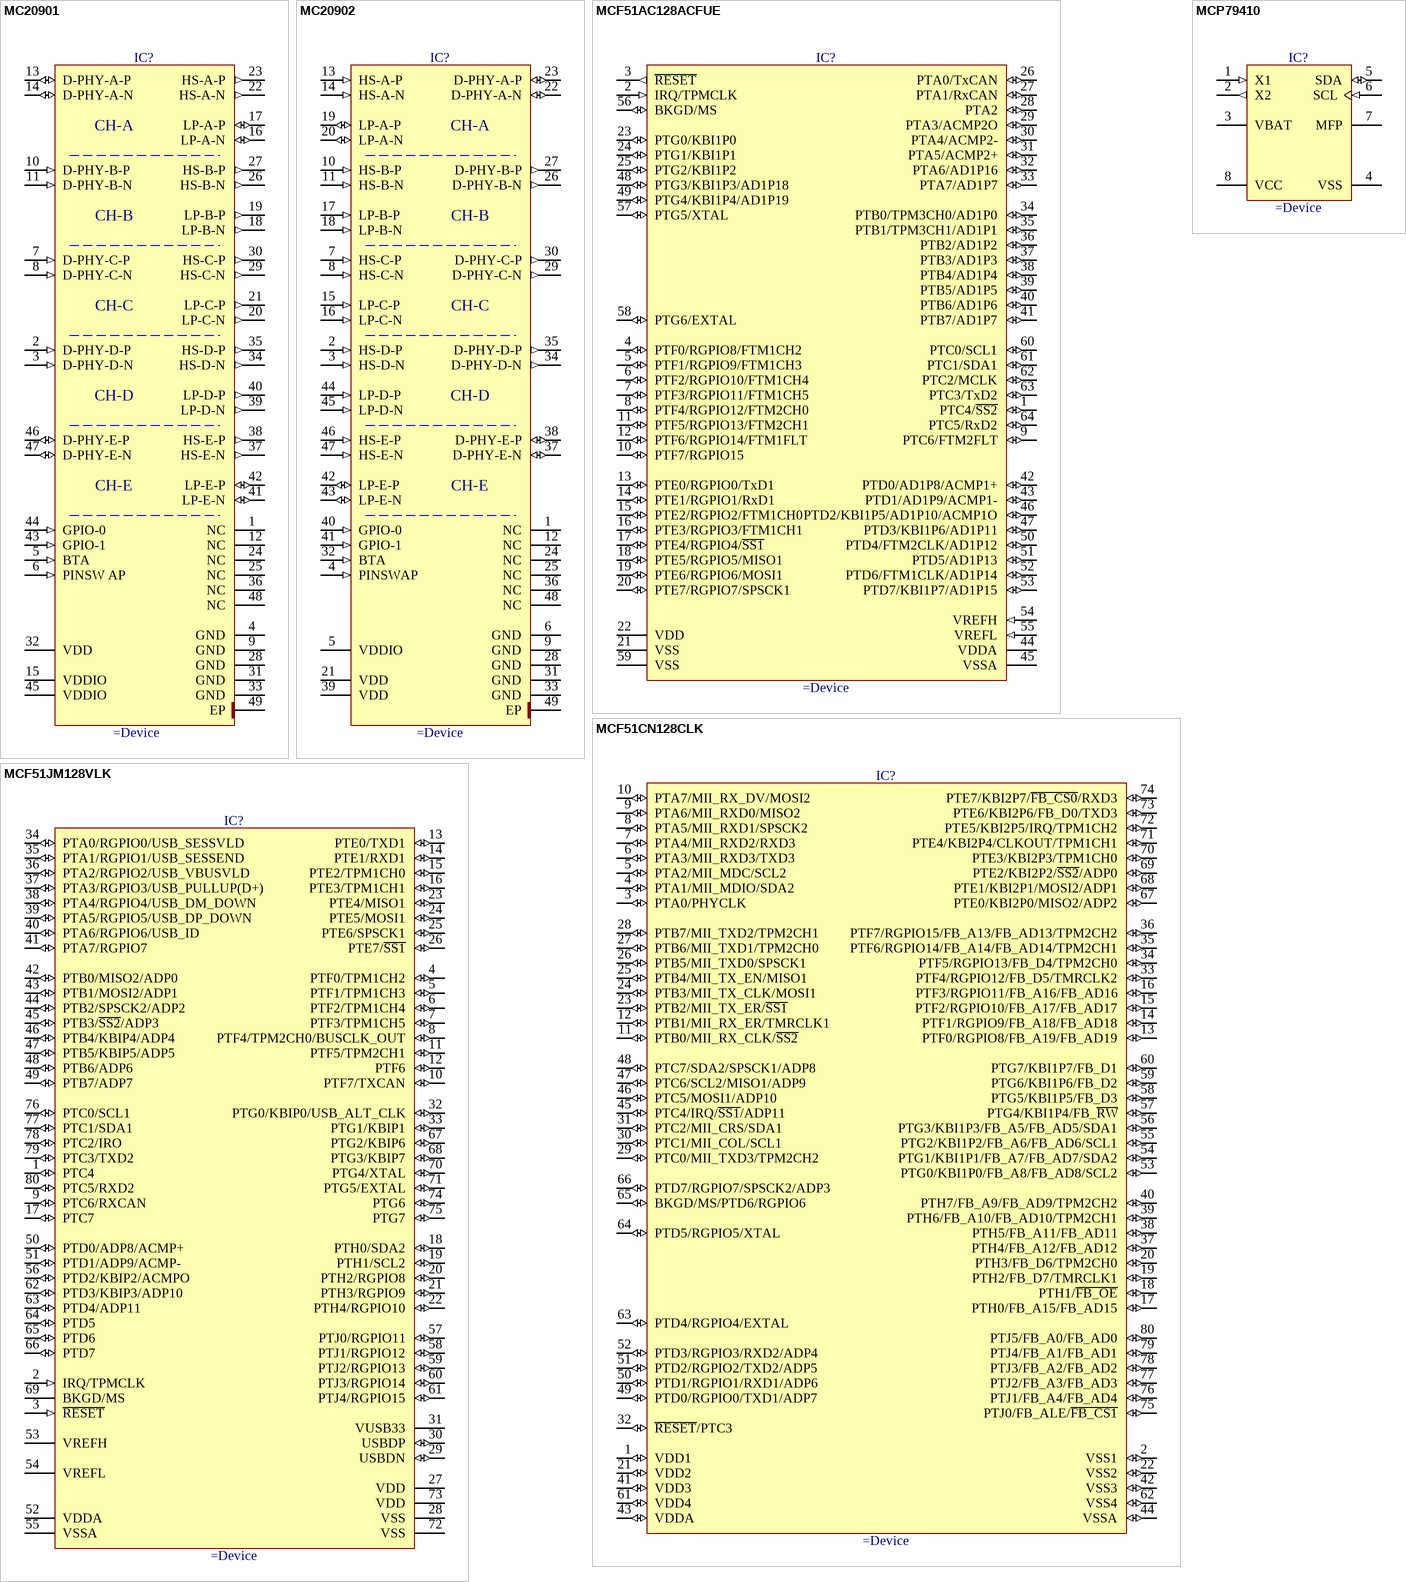
[diagram p100: symbols MC20901 to MCP79410]

## MC20901
designator IC?
5 Channel FPGA Bridge IC
pins: 1 NC "Do not connect", 2 D-PHY-D-P (in) "MIPI D-PHY compliant positive input or SLVS positive input, channel D", 3 D-PHY-D-N (in) "MIPI D-PHY compliant negative input or SLVS negative input, channel D", 4 GND (power) "Global ground", 5 BTA (in) "Bus turnaround control pin", 6 PINSW AP (in) "Pin swap function control pin", 7 D-PHY-C-P (in) "MIPI D-PHY compliant positive input or SLVS positive input, channel C", 8 D-PHY-C-N (in) "MIPI D-PHY compliant negative input or SLVS negative input, channel C", 9 GND (power) "Global ground", 10 D-PHY-B-P (in) "MIPI D-PHY compliant positive input or SLVS positive input, channel B", 11 D-PHY-B-N (in) "MIPI D-PHY compliant negative input or SLVS negative input, channel B", 12 NC "Do not connect", 13 D-PHY-A-P (io) "MIPI D-PHY compliant positive input or SLVS positive input, channel A, output for BTA", 14 D-PHY-A-N (io) "MIPI D-PHY compliant negative input or SLVS negative input, channel A, output for BTA", 15 VDDIO (power) "Supply voltage for the LVDS output stage and internal level shifters", 16 LP-A-N (io) "Negative CMOS low power data output, channel A, input for BTA", 17 LP-A-P (io) "Positive CMOS low power data output, channel A, input for BTA", 18 LP-B-N (out) "Negative CMOS low power data output, channel B", 19 LP-B-P (out) "Positive CMOS low power data output, channel B", 20 LP-C-N (out) "Negative CMOS low power data output, channel C", 21 LP-C-P (out) "Positive CMOS low power data output, channel C", 22 HS-A-N (out) "Negative LVDS high speed output, channel A", 23 HS-A-P (out) "Positive LVDS high speed output, channel A", 24 NC "Do not connect", 25 NC "Do not connect", 26 HS-B-N (out) "Negative LVDS high speed output, channel B", 27 HS-B-P (out) "Positive LVDS high speed output, channel B", 28 GND (power) "Global ground", 29 HS-C-N (out) "Negative LVDS high speed output, channel C", 30 HS-C-P (out) "Positive LVDS high speed output, channel C", 31 GND (power) "Global ground", 32 VDD (power) "Supply voltage for the SLVS input driver and internal logic", 33 GND (power) "Global ground", 34 HS-D-N (out) "Negative LVDS high speed output, channel D", 35 HS-D-P (out) "Positive LVDS high speed output, channel D", 36 NC "Do not connect", 37 HS-E-N (out) "Negative LVDS high speed output, channel E", 38 HS-E-P (out) "Positive LVDS high speed output, channel E", 39 LP-D-N (out) "Negative CMOS low power data output, channel D", 40 LP-D-P (out) "Positive CMOS low power data output, channel D", 41 LP-E-N (io) "Negative CMOS low power data output, channel E, input for BTA", 42 LP-E-P (io) "Positive CMOS low power data output, channel E, input for BTA", 43 GPIO-1 (in) "General purpose configuration input 1", 44 GPIO-0 (in) "General purpose configuration input 0", 45 VDDIO (power) "Supply voltage for the LVDS output stage and internal level shifters", 46 D-PHY-E-P (io) "MIPI D-PHY compliant positive input or SLVS positive input, channel E, output for BTA", 47 D-PHY-E-N (io) "MIPI D-PHY compliant negative input or SLVS negative input, channel E, output for BTA", 48 NC "Do not connect", 49 EP (power) "Thermal Pad may be connected to GND or left floating (n.c.)"
text: CH-A; CH-B; CH-C; CH-D; CH-E

## MC20902
designator IC?
5 Channel FPGA Bridge IC
pins: 1 NC "Do not connect", 2 HS-D-P (in) "Positive LVDS high speed input, channel D", 3 HS-D-N (in) "Negative LVDS high speed input, channel D", 4 PINSWAP (in) "Pin swap function control pin", 5 VDDIO (power) "Supply voltage for internal level shifters and LVDS input stage", 6 GND (power) "Global ground", 7 HS-C-P (in) "Positive LVDS high speed input, channel C", 8 HS-C-N (in) "Negative LVDS high speed input, channel C", 9 GND (power) "Global ground", 10 HS-B-P (in) "Positive LVDS high speed input, channel B", 11 HS-B-N (in) "Negative LVDS high speed input, channel B", 12 NC "Do not connect", 13 HS-A-P (in) "Positive LVDS high speed input, channel A", 14 HS-A-N (in) "Negative LVDS high speed input, channel A", 15 LP-C-P (in) "Positive CMOS low power data input, channel C", 16 LP-C-N (in) "Negative CMOS low power data input, channel C", 17 LP-B-P (in) "Positive CMOS low power data input, channel B", 18 LP-B-N (in) "Negative CMOS low power data input, channel B", 19 LP-A-P (io) "Positive CMOS low power data input, channel A, output for BTA", 20 LP-A-N (io) "Negative CMOS low power data input, channel A, output for BTA", 21 VDD (power) "Supply voltage for internal logic and SLVS output drivers", 22 D-PHY-A-N (io) "MIPI D-PHY compliant negative output or SLVS negative output, channel A, input for BTA", 23 D-PHY-A-P (io) "MIPI D-PHY compliant positive output or SLVS positive output, channel A, input for BTA", 24 NC "Do not connect", 25 NC "Do not connect", 26 D-PHY-B-N (out) "MIPI D-PHY compliant negative output or SLVS negative output, channel B", 27 D-PHY-B-P (out) "MIPI D-PHY compliant positive output or SLVS positive output, channel B", 28 GND (power) "Global ground", 29 D-PHY-C-N (out) "MIPI D-PHY compliant negative output or SLVS negative output, channel C", 30 D-PHY-C-P (out) "MIPI D-PHY compliant positive output or SLVS positive output, channel C", 31 GND (power) "Global ground", 32 BTA (in) "Bus turnaround control pin", 33 GND (power) "Global ground", 34 D-PHY-D-N (out) "MIPI D-PHY compliant negative output or SLVS negative output, channel D", 35 D-PHY-D-P (out) "MIPI D-PHY compliant positive output or SLVS positive output, channel D", 36 NC "Do not connect", 37 D-PHY-E-N (io) "MIPI D-PHY compliant negative output or SLVS negative output, channel E, input for BTA", 38 D-PHY-E-P (io) "MIPI D-PHY compliant positive output or SLVS positive output, channel E, input for BTA", 39 VDD (power) "Supply voltage for internal logic and SLVS output drivers", 40 GPIO-0 (in) "General purpose configuration input 0", 41 GPIO-1 (in) "General purpose configuration input 1", 42 LP-E-P (io) "Positive CMOS low power data input, channel E, output for BTA", 43 LP-E-N (io) "Negative CMOS low power data input, channel E, output for BTA", 44 LP-D-P (in) "Positive CMOS low power data input, channel D", 45 LP-D-N (in) "Negative CMOS low power data input, channel D", 46 HS-E-P (in) "Positive LVDS high speed input, channel E", 47 HS-E-N (in) "Negative LVDS high speed input, channel E", 48 NC "Do not connect", 49 EP (power) "Thermal Pad may be connected to GND or left floating (n.c.)"
text: CH-A; CH-B; CH-C; CH-D; CH-E

## MCF51AC128ACFUE
designator IC?
128Kb Flash/32Kb SRAM, 32-Bit ColdFire Microcontroller With CAN
pins: 1 PTC4/~{SS2} (io), 2 IRQ/TPMCLK (in), 3 ~{RESET} (out), 4 PTF0/RGPIO8/FTM1CH2 (io), 5 PTF1/RGPIO9/FTM1CH3 (io), 6 PTF2/RGPIO10/FTM1CH4 (io), 7 PTF3/RGPIO11/FTM1CH5 (io), 8 PTF4/RGPIO12/FTM2CH0 (io), 9 PTC6/FTM2FLT (io), 10 PTF7/RGPIO15 (io), 11 PTF5/RGPIO13/FTM2CH1 (io), 12 PTF6/RGPIO14/FTM1FLT (io), 13 PTE0/RGPIO0/TxD1 (io), 14 PTE1/RGPIO1/RxD1 (io), 15 PTE2/RGPIO2/FTM1CH0 (io), 16 PTE3/RGPIO3/FTM1CH1 (io), 17 PTE4/RGPIO4/~{SS1} (io), 18 PTE5/RGPIO5/MISO1 (io), 19 PTE6/RGPIO6/MOSI1 (io), 20 PTE7/RGPIO7/SPSCK1 (io), 21 VSS (power), 22 VDD (power), 23 PTG0/KBI1P0 (io), 24 PTG1/KBI1P1 (io), 25 PTG2/KBI1P2 (io), 26 PTA0/TxCAN (io), 27 PTA1/RxCAN (io), 28 PTA2 (io), 29 PTA3/ACMP2O (io), 30 PTA4/ACMP2- (io), 31 PTA5/ACMP2+ (io), 32 PTA6/AD1P16 (io), 33 PTA7/AD1P7 (io), 34 PTB0/TPM3CH0/AD1P0 (io), 35 PTB1/TPM3CH1/AD1P1 (io), 36 PTB2/AD1P2 (io), 37 PTB3/AD1P3 (io), 38 PTB4/AD1P4 (io), 39 PTB5/AD1P5 (io), 40 PTB6/AD1P6 (io), 41 PTB7/AD1P7 (io), 42 PTD0/AD1P8/ACMP1+ (io), 43 PTD1/AD1P9/ACMP1- (io), 44 VDDA (power), 45 VSSA (power), 46 PTD2/KBI1P5/AD1P10/ACMP1O (io), 47 PTD3/KBI1P6/AD1P11 (io), 48 PTG3/KBI1P3/AD1P18 (io), 49 PTG4/KBI1P4/AD1P19 (io), 50 PTD4/FTM2CLK/AD1P12 (io), 51 PTD5/AD1P13 (io), 52 PTD6/FTM1CLK/AD1P14 (io), 53 PTD7/KBI1P7/AD1P15 (io), 54 VREFH (in), 55 VREFL (in), 56 BKGD/MS (io), 57 PTG5/XTAL (io), 58 PTG6/EXTAL (io), 59 VSS (power), 60 PTC0/SCL1 (io), 61 PTC1/SDA1 (io), 62 PTC2/MCLK (io), 63 PTC3/TxD2 (io), 64 PTC5/RxD2 (io)

## MCF51CN128CLK
designator IC?
128Kb Flash/24Kb RAM, 32-Bit ColdFire Microcontroller
pins: 1 VDD1 (io), 2 VSS1 (io), 3 PTA0/PHYCLK (io), 4 PTA1/MII_MDIO/SDA2 (io), 5 PTA2/MII_MDC/SCL2 (io), 6 PTA3/MII_RXD3/TXD3 (io), 7 PTA4/MII_RXD2/RXD3 (io), 8 PTA5/MII_RXD1/SPSCK2 (io), 9 PTA6/MII_RXD0/MISO2 (io), 10 PTA7/MII_RX_DV/MOSI2 (io), 11 PTB0/MII_RX_CLK/~{SS2} (io), 12 PTB1/MII_RX_ER/TMRCLK1 (io), 13 PTF0/RGPIO8/FB_A19/FB_AD19 (io), 14 PTF1/RGPIO9/FB_A18/FB_AD18 (io), 15 PTF2/RGPIO10/FB_A17/FB_AD17 (io), 16 PTF3/RGPIO11/FB_A16/FB_AD16 (io), 17 PTH0/FB_A15/FB_AD15 (io), 18 PTH1/~{FB_OE} (io), 19 PTH2/FB_D7/TMRCLK1 (io), 20 PTH3/FB_D6/TPM2CH0 (io), 21 VDD2 (io), 22 VSS2 (io), 23 PTB2/MII_TX_ER/~{SS1} (io), 24 PTB3/MII_TX_CLK/MOSI1 (io), 25 PTB4/MII_TX_EN/MISO1 (io), 26 PTB5/MII_TXD0/SPSCK1 (io), 27 PTB6/MII_TXD1/TPM2CH0 (io), 28 PTB7/MII_TXD2/TPM2CH1 (io), 29 PTC0/MII_TXD3/TPM2CH2 (io), 30 PTC1/MII_COL/SCL1 (io), 31 PTC2/MII_CRS/SDA1 (io), 32 ~{RESET}/PTC3 (io), 33 PTF4/RGPIO12/FB_D5/TMRCLK2 (io), 34 PTF5/RGPIO13/FB_D4/TPM2CH0 (io), 35 PTF6/RGPIO14/FB_A14/FB_AD14/TPM2CH1 (io), 36 PTF7/RGPIO15/FB_A13/FB_AD13/TPM2CH2 (io), 37 PTH4/FB_A12/FB_AD12 (io), 38 PTH5/FB_A11/FB_AD11 (io), 39 PTH6/FB_A10/FB_AD10/TPM2CH1 (io), 40 PTH7/FB_A9/FB_AD9/TPM2CH2 (io), 41 VDD3 (io), 42 VSS3 (io), 43 VDDA (io), 44 VSSA (io), 45 PTC4/IRQ/~{SS1}/ADP11 (io), 46 PTC5/MOSI1/ADP10 (io), 47 PTC6/SCL2/MISO1/ADP9 (io), 48 PTC7/SDA2/SPSCK1/ADP8 (io), 49 PTD0/RGPIO0/TXD1/ADP7 (io), 50 PTD1/RGPIO1/RXD1/ADP6 (io), 51 PTD2/RGPIO2/TXD2/ADP5 (io), 52 PTD3/RGPIO3/RXD2/ADP4 (io), 53 PTG0/KBI1P0/FB_A8/FB_AD8/SCL2 (io), 54 PTG1/KBI1P1/FB_A7/FB_AD7/SDA2 (io), 55 PTG2/KBI1P2/FB_A6/FB_AD6/SCL1 (io), 56 PTG3/KBI1P3/FB_A5/FB_AD5/SDA1 (io), 57 PTG4/KBI1P4/FB_~{RW} (io), 58 PTG5/KBI1P5/FB_D3 (io), 59 PTG6/KBI1P6/FB_D2 (io), 60 PTG7/KBI1P7/FB_D1 (io), 61 VDD4 (io), 62 VSS4 (io), 63 PTD4/RGPIO4/EXTAL (io), 64 PTD5/RGPIO5/XTAL (io), 65 BKGD/MS/PTD6/RGPIO6 (io), 66 PTD7/RGPIO7/SPSCK2/ADP3 (io), 67 PTE0/KBI2P0/MISO2/ADP2 (io), 68 PTE1/KBI2P1/MOSI2/ADP1 (io), 69 PTE2/KBI2P2/~{SS2}/ADP0 (io), 70 PTE3/KBI2P3/TPM1CH0 (io), 71 PTE4/KBI2P4/CLKOUT/TPM1CH1 (io), 72 PTE5/KBI2P5/IRQ/TPM1CH2 (io), 73 PTE6/KBI2P6/FB_D0/TXD3 (io), 74 PTE7/KBI2P7/~{FB_CS0}/RXD3 (io), 75 PTJ0/FB_ALE/~{FB_CS1} (io), 76 PTJ1/FB_A4/FB_AD4 (io), 77 PTJ2/FB_A3/FB_AD3 (io), 78 PTJ3/FB_A2/FB_AD2 (io), 79 PTJ4/FB_A1/FB_AD1 (io), 80 PTJ5/FB_A0/FB_AD0 (io)

## MCF51JM128VLK
designator IC?
128Kb Flash/16Kb SRAM, 32-Bit ColdFire Microcontroller
pins: 1 PTC4 (io), 2 IRQ/TPMCLK (in), 3 ~{RESET} (in), 4 PTF0/TPM1CH2 (io), 5 PTF1/TPM1CH3 (io), 6 PTF2/TPM1CH4 (io), 7 PTF3/TPM1CH5 (io), 8 PTF4/TPM2CH0/BUSCLK_OUT (io), 9 PTC6/RXCAN (io), 10 PTF7/TXCAN (io), 11 PTF5/TPM2CH1 (io), 12 PTF6 (io), 13 PTE0/TXD1 (io), 14 PTE1/RXD1 (io), 15 PTE2/TPM1CH0 (io), 16 PTE3/TPM1CH1 (io), 17 PTC7 (io), 18 PTH0/SDA2 (io), 19 PTH1/SCL2 (io), 20 PTH2/RGPIO8 (io), 21 PTH3/RGPIO9 (io), 22 PTH4/RGPIO10 (io), 23 PTE4/MISO1 (io), 24 PTE5/MOSI1 (io), 25 PTE6/SPSCK1 (io), 26 PTE7/~{SS1} (io), 27 VDD (power), 28 VSS (power), 29 USBDN (io), 30 USBDP (io), 31 VUSB33 (power), 32 PTG0/KBIP0/USB_ALT_CLK (io), 33 PTG1/KBIP1 (io), 34 PTA0/RGPIO0/USB_SESSVLD (io), 35 PTA1/RGPIO1/USB_SESSEND (io), 36 PTA2/RGPIO2/USB_VBUSVLD (io), 37 PTA3/RGPIO3/USB_PULLUP(D+) (io), 38 PTA4/RGPIO4/USB_DM_DOWN (io), 39 PTA5/RGPIO5/USB_DP_DOWN (io), 40 PTA6/RGPIO6/USB_ID (io), 41 PTA7/RGPIO7 (io), 42 PTB0/MISO2/ADP0 (io), 43 PTB1/MOSI2/ADP1 (io), 44 PTB2/SPSCK2/ADP2 (io), 45 PTB3/~{SS2}/ADP3 (io), 46 PTB4/KBIP4/ADP4 (io), 47 PTB5/KBIP5/ADP5 (io), 48 PTB6/ADP6 (io), 49 PTB7/ADP7 (io), 50 PTD0/ADP8/ACMP+ (io), 51 PTD1/ADP9/ACMP- (io), 52 VDDA (power), 53 VREFH (power), 54 VREFL (power), 55 VSSA (power), 56 PTD2/KBIP2/ACMPO (io), 57 PTJ0/RGPIO11 (io), 58 PTJ1/RGPIO12 (io), 59 PTJ2/RGPIO13 (io), 60 PTJ3/RGPIO14 (io), 61 PTJ4/RGPIO15 (io), 62 PTD3/KBIP3/ADP10 (io), 63 PTD4/ADP11 (io), 64 PTD5 (io), 65 PTD6 (io), 66 PTD7 (io), 67 PTG2/KBIP6 (io), 68 PTG3/KBIP7 (io), 69 BKGD/MS, 70 PTG4/XTAL (io), 71 PTG5/EXTAL (io), 72 VSS (power), 73 VDD (power), 74 PTG6 (io), 75 PTG7 (io), 76 PTC0/SCL1 (io), 77 PTC1/SDA1 (io), 78 PTC2/IRO (io), 79 PTC3/TXD2 (io), 80 PTC5/RXD2 (io)

## MCP79410
designator IC?
I2C Real-Time Clock/Calendar with EEPROM, SRAM, Unique ID and Battery Switchover
pins: 1 X1 (in), 2 X2 (out), 3 VBAT (power), 4 VSS (power), 5 SDA (io), 6 SCL (in), 7 MFP (oc), 8 VCC (power)

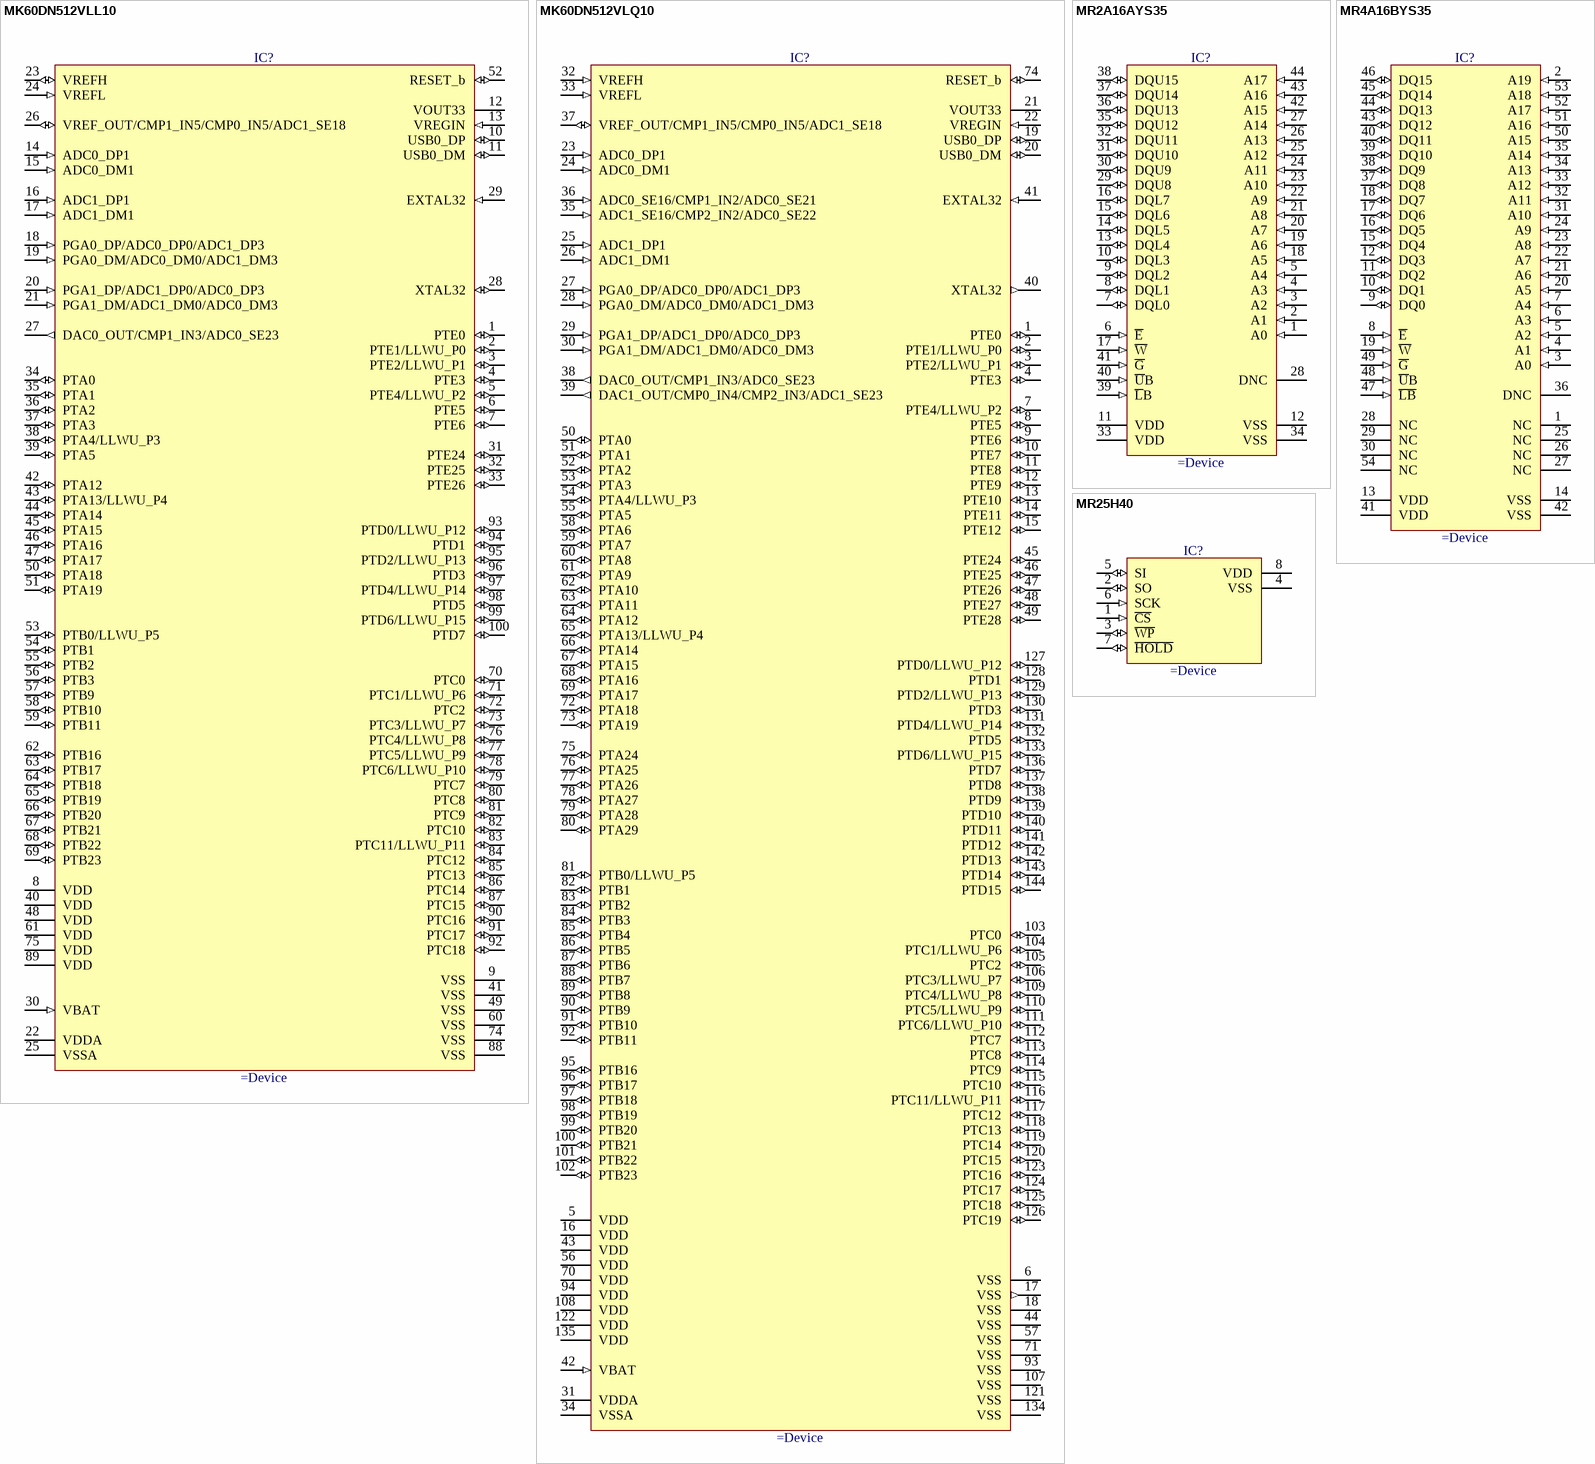
[diagram p101: symbols MK60DN512VLL10 to MR25H40]

## MK60DN512VLL10
designator IC?
32-Bit, 512Kb Flash, 128kb SRAM, 100MHz RISC Microcontroller (K60 Sub-Family)
pins: 1 PTE0 (io), 2 PTE1/LLWU_P0 (io), 3 PTE2/LLWU_P1 (io), 4 PTE3 (io), 5 PTE4/LLWU_P2 (io), 6 PTE5 (io), 7 PTE6 (io), 8 VDD (power), 9 VSS (power), 10 USB0_DP (io), 11 USB0_DM (io), 12 VOUT33 (power), 13 VREGIN (in), 14 ADC0_DP1 (in), 15 ADC0_DM1 (in), 16 ADC1_DP1 (in), 17 ADC1_DM1 (in), 18 PGA0_DP/ADC0_DP0/ADC1_DP3 (in), 19 PGA0_DM/ADC0_DM0/ADC1_DM3 (in), 20 PGA1_DP/ADC1_DP0/ADC0_DP3 (in), 21 PGA1_DM/ADC1_DM0/ADC0_DM3 (in), 22 VDDA (power), 23 VREFH (io), 24 VREFL (in), 25 VSSA (power), 26 VREF_OUT/CMP1_IN5/CMP0_IN5/ADC1_SE18 (io), 27 DAC0_OUT/CMP1_IN3/ADC0_SE23 (out), 28 XTAL32 (io), 29 EXTAL32 (in), 30 VBAT (in), 31 PTE24 (io), 32 PTE25 (io), 33 PTE26 (io), 34 PTA0 (io), 35 PTA1 (io), 36 PTA2 (io), 37 PTA3 (io), 38 PTA4/LLWU_P3 (io), 39 PTA5 (io), 40 VDD (power), 41 VSS (power), 42 PTA12 (io), 43 PTA13/LLWU_P4 (io), 44 PTA14 (io), 45 PTA15 (io), 46 PTA16 (io), 47 PTA17 (io), 48 VDD (power), 49 VSS (power), 50 PTA18 (io), 51 PTA19 (io), 52 RESET_b (io), 53 PTB0/LLWU_P5 (io), 54 PTB1 (io), 55 PTB2 (io), 56 PTB3 (io), 57 PTB9 (io), 58 PTB10 (io), 59 PTB11 (io), 60 VSS (power), 61 VDD (power), 62 PTB16 (io), 63 PTB17 (io), 64 PTB18 (io), 65 PTB19 (io), 66 PTB20 (io), 67 PTB21 (io), 68 PTB22 (io), 69 PTB23 (io), 70 PTC0 (io), 71 PTC1/LLWU_P6 (io), 72 PTC2 (io), 73 PTC3/LLWU_P7 (io), 74 VSS (power), 75 VDD (power), 76 PTC4/LLWU_P8 (io), 77 PTC5/LLWU_P9 (io), 78 PTC6/LLWU_P10 (io), 79 PTC7 (io), 80 PTC8 (io), 81 PTC9 (io), 82 PTC10 (io), 83 PTC11/LLWU_P11 (io), 84 PTC12 (io), 85 PTC13 (io), 86 PTC14 (io), 87 PTC15 (io), 88 VSS (power), 89 VDD (power), 90 PTC16 (io), 91 PTC17 (io), 92 PTC18 (io), 93 PTD0/LLWU_P12 (io), 94 PTD1 (io), 95 PTD2/LLWU_P13 (io), 96 PTD3 (io), 97 PTD4/LLWU_P14 (io), 98 PTD5 (io), 99 PTD6/LLWU_P15 (io), 100 PTD7 (io)

## MK60DN512VLQ10
designator IC?
32-Bit, 512Kb Flash, 128kb SRAM, 100MHz RISC Microcontroller (K60 Sub-Family)
pins: 1 PTE0 (io), 2 PTE1/LLWU_P0 (io), 3 PTE2/LLWU_P1 (io), 4 PTE3 (io), 5 VDD (power), 6 VSS (power), 7 PTE4/LLWU_P2 (io), 8 PTE5 (io), 9 PTE6 (io), 10 PTE7 (io), 11 PTE8 (io), 12 PTE9 (io), 13 PTE10 (io), 14 PTE11 (io), 15 PTE12 (io), 16 VDD (power), 17 VSS (out), 18 VSS (power), 19 USB0_DP (io), 20 USB0_DM (io), 21 VOUT33 (power), 22 VREGIN (in), 23 ADC0_DP1 (in), 24 ADC0_DM1 (in), 25 ADC1_DP1 (in), 26 ADC1_DM1 (in), 27 PGA0_DP/ADC0_DP0/ADC1_DP3 (in), 28 PGA0_DM/ADC0_DM0/ADC1_DM3 (in), 29 PGA1_DP/ADC1_DP0/ADC0_DP3 (in), 30 PGA1_DM/ADC1_DM0/ADC0_DM3 (in), 31 VDDA (power), 32 VREFH (in), 33 VREFL (in), 34 VSSA (power), 35 ADC1_SE16/CMP2_IN2/ADC0_SE22 (in), 36 ADC0_SE16/CMP1_IN2/ADC0_SE21 (in), 37 VREF_OUT/CMP1_IN5/CMP0_IN5/ADC1_SE18 (io), 38 DAC0_OUT/CMP1_IN3/ADC0_SE23 (out), 39 DAC1_OUT/CMP0_IN4/CMP2_IN3/ADC1_SE23 (out), 40 XTAL32 (out), 41 EXTAL32 (in), 42 VBAT (in), 43 VDD (power), 44 VSS (power), 45 PTE24 (io), 46 PTE25 (io), 47 PTE26 (io), 48 PTE27 (io), 49 PTE28 (io), 50 PTA0 (io), 51 PTA1 (io), 52 PTA2 (io), 53 PTA3 (io), 54 PTA4/LLWU_P3 (io), 55 PTA5 (io), 56 VDD (power), 57 VSS (power), 58 PTA6 (io), 59 PTA7 (io), 60 PTA8 (io), 61 PTA9 (io), 62 PTA10 (io), 63 PTA11 (io), 64 PTA12 (io), 65 PTA13/LLWU_P4 (io), 66 PTA14 (io), 67 PTA15 (io), 68 PTA16 (io), 69 PTA17 (io), 70 VDD (power), 71 VSS (power), 72 PTA18 (io), 73 PTA19 (io), 74 RESET_b (io), 75 PTA24 (io), 76 PTA25 (io), 77 PTA26 (io), 78 PTA27 (io), 79 PTA28 (io), 80 PTA29 (io), 81 PTB0/LLWU_P5 (io), 82 PTB1 (io), 83 PTB2 (io), 84 PTB3 (io), 85 PTB4 (io), 86 PTB5 (io), 87 PTB6 (io), 88 PTB7 (io), 89 PTB8 (io), 90 PTB9 (io), 91 PTB10 (io), 92 PTB11 (io), 93 VSS (power), 94 VDD (power), 95 PTB16 (io), 96 PTB17 (io), 97 PTB18 (io), 98 PTB19 (io), 99 PTB20 (io), 100 PTB21 (io), 101 PTB22 (io), 102 PTB23 (io), 103 PTC0 (io), 104 PTC1/LLWU_P6 (io), 105 PTC2 (io), 106 PTC3/LLWU_P7 (io), 107 VSS (power), 108 VDD (power), 109 PTC4/LLWU_P8 (io), 110 PTC5/LLWU_P9 (io), 111 PTC6/LLWU_P10 (io), 112 PTC7 (io), 113 PTC8 (io), 114 PTC9 (io), 115 PTC10 (io), 116 PTC11/LLWU_P11 (io), 117 PTC12 (io), 118 PTC13 (io), 119 PTC14 (io), 120 PTC15 (io), 121 VSS (power), 122 VDD (power), 123 PTC16 (io), 124 PTC17 (io), 125 PTC18 (io), 126 PTC19 (io), 127 PTD0/LLWU_P12 (io), 128 PTD1 (io), 129 PTD2/LLWU_P13 (io), 130 PTD3 (io), 131 PTD4/LLWU_P14 (io), 132 PTD5 (io), 133 PTD6/LLWU_P15 (io), 134 VSS (power), 135 VDD (power), 136 PTD7 (io), 137 PTD8 (io), 138 PTD9 (io), 139 PTD10 (io), 140 PTD11 (io), 141 PTD12 (io), 142 PTD13 (io), 143 PTD14 (io), 144 PTD15 (io)

## MR2A16AYS35
designator IC?
4Mb (256K × 16) MRAM Memory, Fast 35ns R/W Cycle
pins: 1 A0 (in) "Address Input", 2 A1 (in) "Address Input", 3 A2 (in) "Address Input", 4 A3 (in) "Address Input", 5 A4 (in) "Address Input", 6 ~{E} (in) "Chip Enable", 7 DQL0 (io) "Data I/O", 8 DQL1 (io) "Data I/O", 9 DQL2 (io) "Data I/O", 10 DQL3 (io) "Data I/O", 11 VDD (power) "Power Supply", 12 VSS (power) "Ground", 13 DQL4 (io) "Data I/O", 14 DQL5 (io) "Data I/O", 15 DQL6 (io) "Data I/O", 16 DQL7 (io) "Data I/O", 17 ~{W} (in) "Write Enable", 18 A5 (in) "Address Input", 19 A6 (in) "Address Input", 20 A7 (in) "Address Input", 21 A8 (in) "Address Input", 22 A9 (in) "Address Input", 23 A10 (in) "Address Input", 24 A11 (in) "Address Input", 25 A12 (in) "Address Input", 26 A13 (in) "Address Input", 27 A14 (in) "Address Input", 28 DNC "Do Not Connect", 29 DQU8 (io) "Data I/O", 30 DQU9 (io) "Data I/O", 31 DQU10 (io) "Data I/O", 32 DQU11 (io) "Data I/O", 33 VDD (power) "Power Supply", 34 VSS (power) "Ground", 35 DQU12 (io) "Data I/O", 36 DQU13 (io) "Data I/O", 37 DQU14 (io) "Data I/O", 38 DQU15 (io) "Data I/O", 39 ~{L}B (in) "Lower Byte Enable", 40 ~{U}B (in) "Upper Byte Enable", 41 ~{G} (in) "Output Enable", 42 A15 (in) "Address Input", 43 A16 (in) "Address Input", 44 A17 (in) "Address Input"